# Altium schematic symbol library Xilinx Spartan-3E.SchLib: 220 symbols (part 13 of 30)
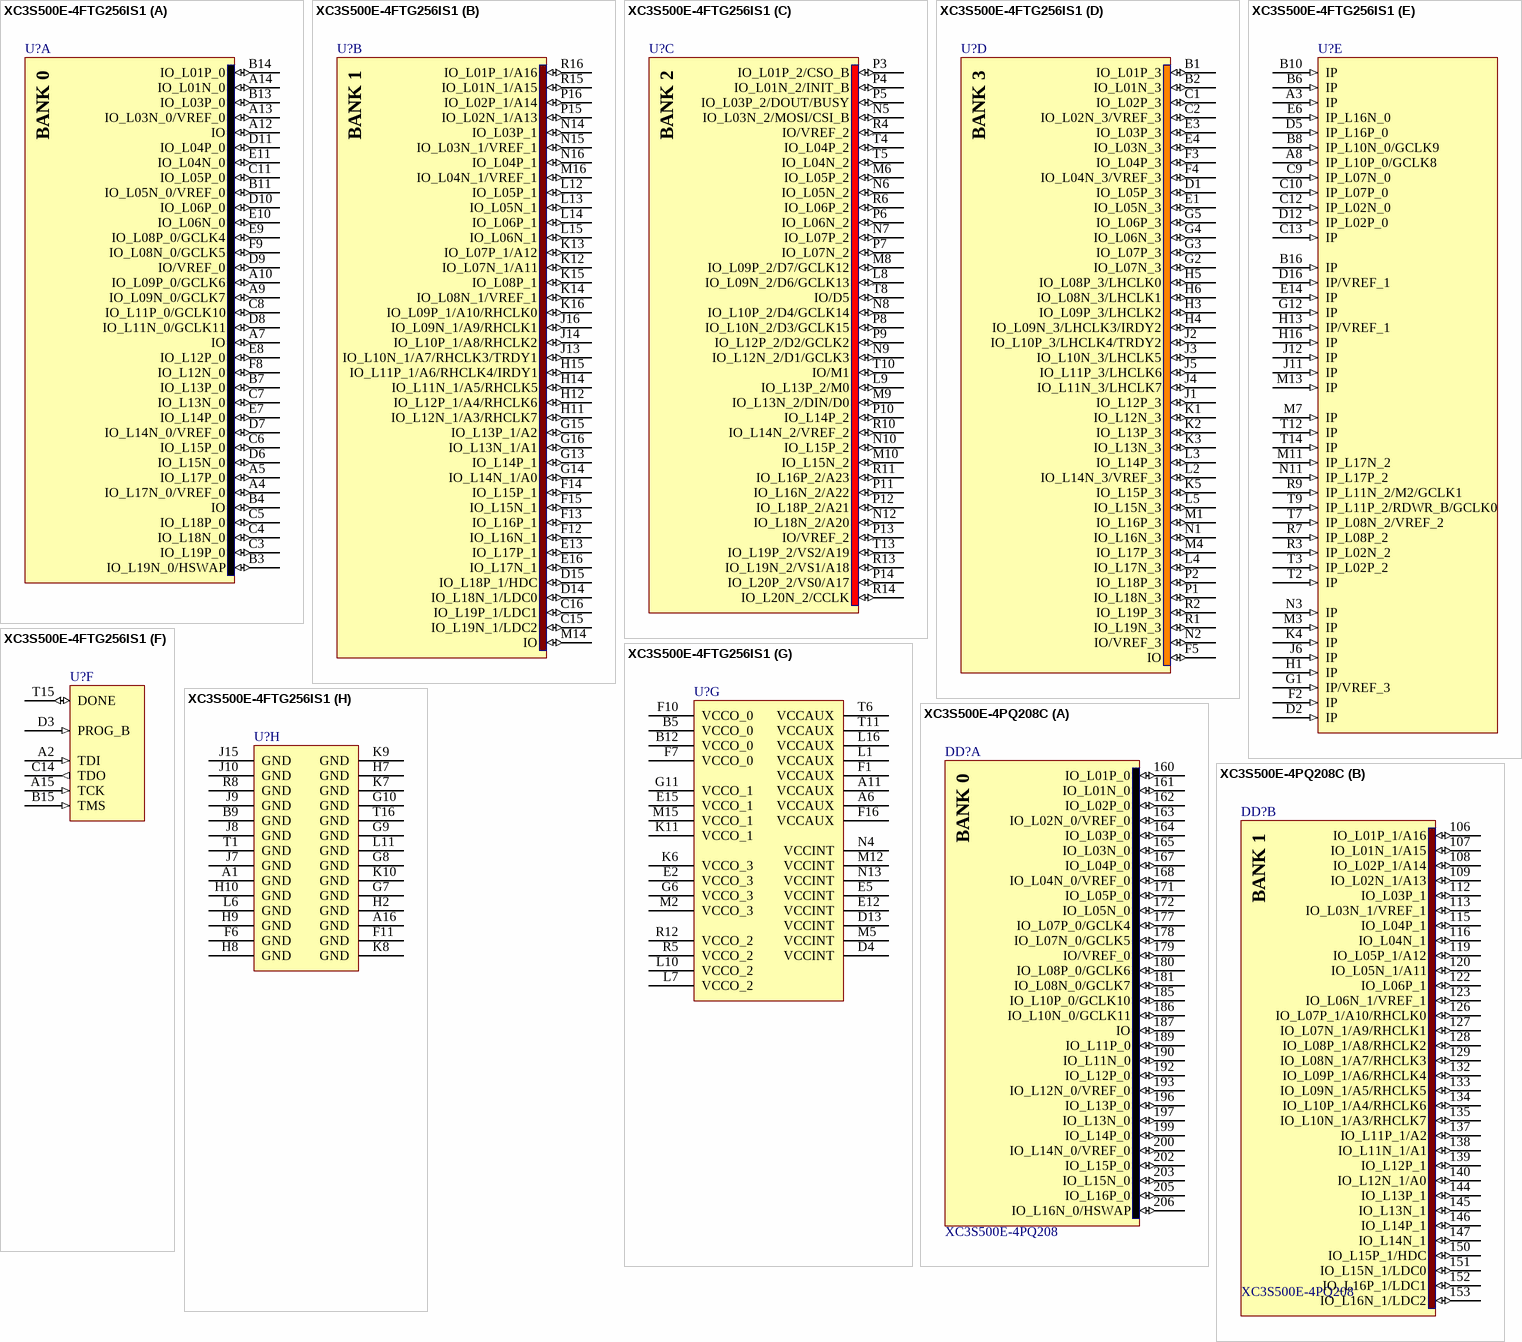
[diagram p207: symbols XC3S500E-4FTG256IS1 to XC3S500E-4PQ208C]

## XC3S500E-4FTG256IS1
designator U?
Spartan-3E 1.2V FPGA, 190 User I/Os, 256-Ball FTBGA, Standard Performance, Industrial Grade, Stepping 1, Pb-Free; Published: 14-May-2007; LatestRevisionDate: 30-Oct-2009; LatestRevisionNote: Updated to datasheet version 3.8 Aug-2009.; DatasheetVersion: ver3.8, Aug-2009; PackageVersion: ver1.3, Oct-2007; PackageReference: FTG256; Publisher: Altium Limited; PackageDescription: 256-Ball Fine Pitch Thin Ball Grid Array 1.00 mm Pitch (FTG256) - Pb-Free; Code_JEDEC: MS-034-AAF-1*; ComponentLink1Description: Spartan-3E Datasheet; ComponentLink1URL: http://www.xilinx.com/support/documentation/data_sheets/ds312.pdf; ComponentLink2Description: FTG256 Package Drawing; ComponentLink2URL: http://www.xilinx.com/support/documentation/package_specs/ft256.pdf; ComponentLink3Description: Spartan-3E Documents; ComponentLink3URL: http://www.xilinx.com/support/documentation/spartan-3e.htm; ComponentLink4Description: Xilinx.com Home; ComponentLink4URL: http://www.xilinx.com
footprint FTG256 (BGA, 256-Leads, Body 17x17mm, Pitch 1mm)
signal-integrity model XC3S500E_FTG256 (Spartan-3E)
part A pins: A4 IO_L17N_0/VREF_0 (io), A5 IO_L17P_0 (io), A7 IO (io), A9 IO_L09N_0/GCLK7 (io), A10 IO_L09P_0/GCLK6 (io), A12 IO (io), A13 IO_L03N_0/VREF_0 (io), A14 IO_L01N_0 (io), B3 IO_L19N_0/HSWAP (io), B4 IO (io), B7 IO_L13P_0 (io), B11 IO_L05N_0/VREF_0 (io), B13 IO_L03P_0 (io), B14 IO_L01P_0 (io), C3 IO_L19P_0 (io), C4 IO_L18N_0 (io), C5 IO_L18P_0 (io), C6 IO_L15P_0 (io), C7 IO_L13N_0 (io), C8 IO_L11P_0/GCLK10 (io), C11 IO_L05P_0 (io), D6 IO_L15N_0 (io), D7 IO_L14N_0/VREF_0 (io), D8 IO_L11N_0/GCLK11 (io), D9 IO/VREF_0 (io), D10 IO_L06P_0 (io), D11 IO_L04P_0 (io), E7 IO_L14P_0 (io), E8 IO_L12P_0 (io), E9 IO_L08P_0/GCLK4 (io), E10 IO_L06N_0 (io), E11 IO_L04N_0 (io), F8 IO_L12N_0 (io), F9 IO_L08N_0/GCLK5 (io)
part B pins: C15 IO_L19N_1/LDC2 (io), C16 IO_L19P_1/LDC1 (io), D14 IO_L18N_1/LDC0 (io), D15 IO_L18P_1/HDC (io), E13 IO_L17P_1 (io), E16 IO_L17N_1 (io), F12 IO_L16N_1 (io), F13 IO_L16P_1 (io), F14 IO_L15P_1 (io), F15 IO_L15N_1 (io), G13 IO_L14P_1 (io), G14 IO_L14N_1/A0 (io), G15 IO_L13P_1/A2 (io), G16 IO_L13N_1/A1 (io), H11 IO_L12N_1/A3/RHCLK7 (io), H12 IO_L12P_1/A4/RHCLK6 (io), H14 IO_L11N_1/A5/RHCLK5 (io), H15 IO_L11P_1/A6/RHCLK4/IRDY1 (io), J13 IO_L10N_1/A7/RHCLK3/TRDY1 (io), J14 IO_L10P_1/A8/RHCLK2 (io), J16 IO_L09N_1/A9/RHCLK1 (io), K12 IO_L07N_1/A11 (io), K13 IO_L07P_1/A12 (io), K14 IO_L08N_1/VREF_1 (io), K15 IO_L08P_1 (io), K16 IO_L09P_1/A10/RHCLK0 (io), L12 IO_L05P_1 (io), L13 IO_L05N_1 (io), L14 IO_L06P_1 (io), L15 IO_L06N_1 (io), M14 IO (io), M16 IO_L04N_1/VREF_1 (io), N14 IO_L03P_1 (io), N15 IO_L03N_1/VREF_1 (io), N16 IO_L04P_1 (io), P15 IO_L02N_1/A13 (io), P16 IO_L02P_1/A14 (io), R15 IO_L01N_1/A15 (io), R16 IO_L01P_1/A16 (io)
part C pins: L8 IO_L09N_2/D6/GCLK13 (io), L9 IO_L13P_2/M0 (io), M6 IO_L05P_2 (io), M8 IO_L09P_2/D7/GCLK12 (io), M9 IO_L13N_2/DIN/D0 (io), M10 IO_L15N_2 (io), N5 IO_L03N_2/MOSI/CSI_B (io), N6 IO_L05N_2 (io), N7 IO_L07P_2 (io), N8 IO_L10P_2/D4/GCLK14 (io), N9 IO_L12N_2/D1/GCLK3 (io), N10 IO_L15P_2 (io), N12 IO_L18N_2/A20 (io), P3 IO_L01P_2/CSO_B (io), P4 IO_L01N_2/INIT_B (io), P5 IO_L03P_2/DOUT/BUSY (io), P6 IO_L06N_2 (io), P7 IO_L07N_2 (io), P8 IO_L10N_2/D3/GCLK15 (io), P9 IO_L12P_2/D2/GCLK2 (io), P10 IO_L14P_2 (io), P11 IO_L16N_2/A22 (io), P12 IO_L18P_2/A21 (io), P13 IO/VREF_2 (io), P14 IO_L20P_2/VS0/A17 (io), R4 IO/VREF_2 (io), R6 IO_L06P_2 (io), R10 IO_L14N_2/VREF_2 (io), R11 IO_L16P_2/A23 (io), R13 IO_L19N_2/VS1/A18 (io), R14 IO_L20N_2/CCLK (io), T4 IO_L04P_2 (io), T5 IO_L04N_2 (io), T8 IO/D5 (io), T10 IO/M1 (io), T13 IO_L19P_2/VS2/A19 (io)
part D pins: B1 IO_L01P_3 (io), B2 IO_L01N_3 (io), C1 IO_L02P_3 (io), C2 IO_L02N_3/VREF_3 (io), D1 IO_L05P_3 (io), E1 IO_L05N_3 (io), E3 IO_L03P_3 (io), E4 IO_L03N_3 (io), F3 IO_L04P_3 (io), F4 IO_L04N_3/VREF_3 (io), F5 IO (io), G2 IO_L07N_3 (io), G3 IO_L07P_3 (io), G4 IO_L06N_3 (io), G5 IO_L06P_3 (io), H3 IO_L09P_3/LHCLK2 (io), H4 IO_L09N_3/LHCLK3/IRDY2 (io), H5 IO_L08P_3/LHCLK0 (io), H6 IO_L08N_3/LHCLK1 (io), J1 IO_L12P_3 (io), J2 IO_L10P_3/LHCLK4/TRDY2 (io), J3 IO_L10N_3/LHCLK5 (io), J4 IO_L11N_3/LHCLK7 (io), J5 IO_L11P_3/LHCLK6 (io), K1 IO_L12N_3 (io), K2 IO_L13P_3 (io), K3 IO_L13N_3 (io), K5 IO_L15P_3 (io), L2 IO_L14N_3/VREF_3 (io), L3 IO_L14P_3 (io), L4 IO_L17N_3 (io), L5 IO_L15N_3 (io), M1 IO_L16P_3 (io), M4 IO_L17P_3 (io), N1 IO_L16N_3 (io), N2 IO/VREF_3 (io), P1 IO_L18N_3 (io), P2 IO_L18P_3 (io), R1 IO_L19N_3 (io), R2 IO_L19P_3 (io)
part E pins: A3 IP (in), A8 IP_L10P_0/GCLK8 (in), B6 IP (in), B8 IP_L10N_0/GCLK9 (in), B10 IP (in), B16 IP (in), C9 IP_L07N_0 (in), C10 IP_L07P_0 (in), C12 IP_L02N_0 (in), C13 IP (in), D2 IP (in), D5 IP_L16P_0 (in), D12 IP_L02P_0 (in), D16 IP/VREF_1 (in), E6 IP_L16N_0 (in), E14 IP (in), F2 IP (in), G1 IP/VREF_3 (in), G12 IP (in), H1 IP (in), H13 IP/VREF_1 (in), H16 IP (in), J6 IP (in), J11 IP (in), J12 IP (in), K4 IP (in), M3 IP (in), M7 IP (in), M11 IP_L17N_2 (in), M13 IP (in), N3 IP (in), N11 IP_L17P_2 (in), R3 IP_L02N_2 (in), R7 IP_L08P_2 (in), R9 IP_L11N_2/M2/GCLK1 (in), T2 IP (in), T3 IP_L02P_2 (in), T7 IP_L08N_2/VREF_2 (in), T9 IP_L11P_2/RDWR_B/GCLK0 (in), T12 IP (in), T14 IP (in)
part F pins: A2 TDI (in), A15 TCK (in), B15 TMS (in), C14 TDO (out), D3 PROG_B (in), T15 DONE (io)
part G pins: A6 VCCAUX (power), A11 VCCAUX (power), B5 VCCO_0 (power), B12 VCCO_0 (power), D4 VCCINT (power), D13 VCCINT (power), E2 VCCO_3 (power), E5 VCCINT (power), E12 VCCINT (power), E15 VCCO_1 (power), F1 VCCAUX (power), F7 VCCO_0 (power), F10 VCCO_0 (power), F16 VCCAUX (power), G6 VCCO_3 (power), G11 VCCO_1 (power), K6 VCCO_3 (power), K11 VCCO_1 (power), L1 VCCAUX (power), L7 VCCO_2 (power), L10 VCCO_2 (power), L16 VCCAUX (power), M2 VCCO_3 (power), M5 VCCINT (power), M12 VCCINT (power), M15 VCCO_1 (power), N4 VCCINT (power), N13 VCCINT (power), R5 VCCO_2 (power), R12 VCCO_2 (power), T6 VCCAUX (power), T11 VCCAUX (power)
part H pins: A1 GND (power), A16 GND (power), B9 GND (power), F6 GND (power), F11 GND (power), G7 GND (power), G8 GND (power), G9 GND (power), G10 GND (power), H2 GND (power), H7 GND (power), H8 GND (power), H9 GND (power), H10 GND (power), J7 GND (power), J8 GND (power), J9 GND (power), J10 GND (power), J15 GND (power), K7 GND (power), K8 GND (power), K9 GND (power), K10 GND (power), L6 GND (power), L11 GND (power), R8 GND (power), T1 GND (power), T16 GND (power)
part A text: BANK 0
part B text: BANK 1
part C text: BANK 2
part D text: BANK 3

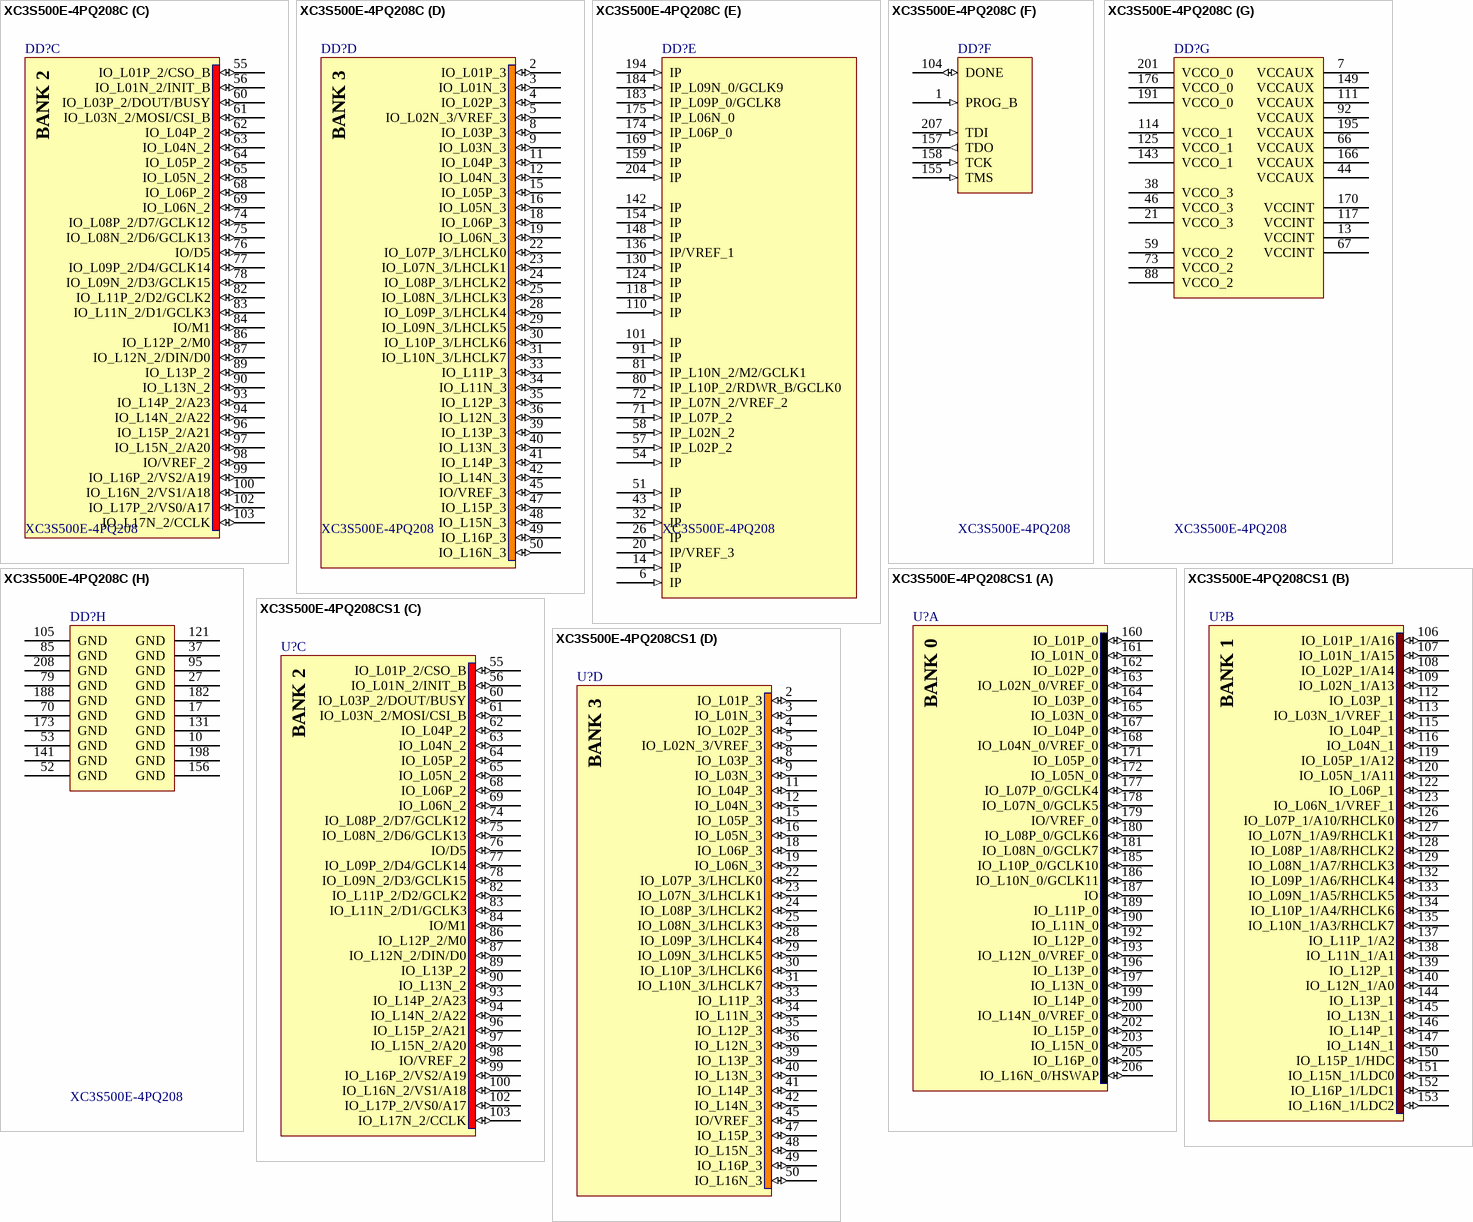
[diagram p72: symbols XC3S500E-4PQ208C to XC3S500E-4PQ208CS1]

## XC3S500E-4PQ208C
designator DD?, comment XC3S500E-4PQ208
Spartan-3E 1.2V FPGA, 158 User I/Os, 208-Pin PQFP, Standard Performance, Commercial Grade; Published: 6-Jun-2005; LatestRevisionDate: 30-Oct-2009; LatestRevisionNote: Updated to datasheet version 3.8 Aug-2009.; DatasheetVersion: ver3.8, Aug-2009; PackageVersion: ver1.2, Jun-2004; PackageReference: PQ208; Publisher: Altium Limited; PackageDescription: 208-Pin Plastic Quad Flat Pack (PQ208); Code_JEDEC: MS-029-FA-1; ComponentLink1Description: Spartan-3E Datasheet; ComponentLink1URL: http://www.xilinx.com/support/documentation/data_sheets/ds312.pdf; ComponentLink2Description: PQ208 Package Drawing; ComponentLink2URL: http://www.xilinx.com/support/documentation/package_specs/pq208.pdf; ComponentLink3Description: Spartan-3E Documents; ComponentLink3URL: http://www.xilinx.com/support/documentation/spartan-3e.htm; ComponentLink4Description: Xilinx.com Home; ComponentLink4URL: http://www.xilinx.com
footprint PQ208_N (Shrink QFP, 208-Leads, Body 28x28mm, Pitch 0.5mm, IPC Medium Density)
footprint PQ208_L (Shrink QFP, 208-Leads, Body 28x28mm, Pitch 0.5mm, IPC High Density)
footprint PQ208_M (Shrink QFP, 208-Leads, Body 28x28mm, Pitch 0.5mm, IPC Low Density)
signal-integrity model XC3S500E_PQ208 (Spartan-3E)
part A pins: 160 IO_L01P_0 (io), 161 IO_L01N_0 (io), 162 IO_L02P_0 (io), 163 IO_L02N_0/VREF_0 (io), 164 IO_L03P_0 (io), 165 IO_L03N_0 (io), 167 IO_L04P_0 (io), 168 IO_L04N_0/VREF_0 (io), 171 IO_L05P_0 (io), 172 IO_L05N_0 (io), 177 IO_L07P_0/GCLK4 (io), 178 IO_L07N_0/GCLK5 (io), 179 IO/VREF_0 (io), 180 IO_L08P_0/GCLK6 (io), 181 IO_L08N_0/GCLK7 (io), 185 IO_L10P_0/GCLK10 (io), 186 IO_L10N_0/GCLK11 (io), 187 IO (io), 189 IO_L11P_0 (io), 190 IO_L11N_0 (io), 192 IO_L12P_0 (io), 193 IO_L12N_0/VREF_0 (io), 196 IO_L13P_0 (io), 197 IO_L13N_0 (io), 199 IO_L14P_0 (io), 200 IO_L14N_0/VREF_0 (io), 202 IO_L15P_0 (io), 203 IO_L15N_0 (io), 205 IO_L16P_0 (io), 206 IO_L16N_0/HSWAP (io)
part B pins: 106 IO_L01P_1/A16 (io), 107 IO_L01N_1/A15 (io), 108 IO_L02P_1/A14 (io), 109 IO_L02N_1/A13 (io), 112 IO_L03P_1 (io), 113 IO_L03N_1/VREF_1 (io), 115 IO_L04P_1 (io), 116 IO_L04N_1 (io), 119 IO_L05P_1/A12 (io), 120 IO_L05N_1/A11 (io), 122 IO_L06P_1 (io), 123 IO_L06N_1/VREF_1 (io), 126 IO_L07P_1/A10/RHCLK0 (io), 127 IO_L07N_1/A9/RHCLK1 (io), 128 IO_L08P_1/A8/RHCLK2 (io), 129 IO_L08N_1/A7/RHCLK3 (io), 132 IO_L09P_1/A6/RHCLK4 (io), 133 IO_L09N_1/A5/RHCLK5 (io), 134 IO_L10P_1/A4/RHCLK6 (io), 135 IO_L10N_1/A3/RHCLK7 (io), 137 IO_L11P_1/A2 (io), 138 IO_L11N_1/A1 (io), 139 IO_L12P_1 (io), 140 IO_L12N_1/A0 (io), 144 IO_L13P_1 (io), 145 IO_L13N_1 (io), 146 IO_L14P_1 (io), 147 IO_L14N_1 (io), 150 IO_L15P_1/HDC (io), 151 IO_L15N_1/LDC0 (io), 152 IO_L16P_1/LDC1 (io), 153 IO_L16N_1/LDC2 (io)
part C pins: 55 IO_L01P_2/CSO_B (io), 56 IO_L01N_2/INIT_B (io), 60 IO_L03P_2/DOUT/BUSY (io), 61 IO_L03N_2/MOSI/CSI_B (io), 62 IO_L04P_2 (io), 63 IO_L04N_2 (io), 64 IO_L05P_2 (io), 65 IO_L05N_2 (io), 68 IO_L06P_2 (io), 69 IO_L06N_2 (io), 74 IO_L08P_2/D7/GCLK12 (io), 75 IO_L08N_2/D6/GCLK13 (io), 76 IO/D5 (io), 77 IO_L09P_2/D4/GCLK14 (io), 78 IO_L09N_2/D3/GCLK15 (io), 82 IO_L11P_2/D2/GCLK2 (io), 83 IO_L11N_2/D1/GCLK3 (io), 84 IO/M1 (io), 86 IO_L12P_2/M0 (io), 87 IO_L12N_2/DIN/D0 (io), 89 IO_L13P_2 (io), 90 IO_L13N_2 (io), 93 IO_L14P_2/A23 (io), 94 IO_L14N_2/A22 (io), 96 IO_L15P_2/A21 (io), 97 IO_L15N_2/A20 (io), 98 IO/VREF_2 (io), 99 IO_L16P_2/VS2/A19 (io), 100 IO_L16N_2/VS1/A18 (io), 102 IO_L17P_2/VS0/A17 (io), 103 IO_L17N_2/CCLK (io)
part D pins: 2 IO_L01P_3 (io), 3 IO_L01N_3 (io), 4 IO_L02P_3 (io), 5 IO_L02N_3/VREF_3 (io), 8 IO_L03P_3 (io), 9 IO_L03N_3 (io), 11 IO_L04P_3 (io), 12 IO_L04N_3 (io), 15 IO_L05P_3 (io), 16 IO_L05N_3 (io), 18 IO_L06P_3 (io), 19 IO_L06N_3 (io), 22 IO_L07P_3/LHCLK0 (io), 23 IO_L07N_3/LHCLK1 (io), 24 IO_L08P_3/LHCLK2 (io), 25 IO_L08N_3/LHCLK3 (io), 28 IO_L09P_3/LHCLK4 (io), 29 IO_L09N_3/LHCLK5 (io), 30 IO_L10P_3/LHCLK6 (io), 31 IO_L10N_3/LHCLK7 (io), 33 IO_L11P_3 (io), 34 IO_L11N_3 (io), 35 IO_L12P_3 (io), 36 IO_L12N_3 (io), 39 IO_L13P_3 (io), 40 IO_L13N_3 (io), 41 IO_L14P_3 (io), 42 IO_L14N_3 (io), 45 IO/VREF_3 (io), 47 IO_L15P_3 (io), 48 IO_L15N_3 (io), 49 IO_L16P_3 (io), 50 IO_L16N_3 (io)
part E pins: 6 IP (in), 14 IP (in), 20 IP/VREF_3 (in), 26 IP (in), 32 IP (in), 43 IP (in), 51 IP (in), 54 IP (in), 57 IP_L02P_2 (in), 58 IP_L02N_2 (in), 71 IP_L07P_2 (in), 72 IP_L07N_2/VREF_2 (in), 80 IP_L10P_2/RDWR_B/GCLK0 (in), 81 IP_L10N_2/M2/GCLK1 (in), 91 IP (in), 101 IP (in), 110 IP (in), 118 IP (in), 124 IP (in), 130 IP (in), 136 IP/VREF_1 (in), 142 IP (in), 148 IP (in), 154 IP (in), 159 IP (in), 169 IP (in), 174 IP_L06P_0 (in), 175 IP_L06N_0 (in), 183 IP_L09P_0/GCLK8 (in), 184 IP_L09N_0/GCLK9 (in), 194 IP (in), 204 IP (in)
part F pins: 1 PROG_B (in), 104 DONE (io), 155 TMS (in), 157 TDO (out), 158 TCK (in), 207 TDI (in)
part G pins: 7 VCCAUX (power), 13 VCCINT (power), 21 VCCO_3 (power), 38 VCCO_3 (power), 44 VCCAUX (power), 46 VCCO_3 (power), 59 VCCO_2 (power), 66 VCCAUX (power), 67 VCCINT (power), 73 VCCO_2 (power), 88 VCCO_2 (power), 92 VCCAUX (power), 111 VCCAUX (power), 114 VCCO_1 (power), 117 VCCINT (power), 125 VCCO_1 (power), 143 VCCO_1 (power), 149 VCCAUX (power), 166 VCCAUX (power), 170 VCCINT (power), 176 VCCO_0 (power), 191 VCCO_0 (power), 195 VCCAUX (power), 201 VCCO_0 (power)
part H pins: 10 GND (power), 17 GND (power), 27 GND (power), 37 GND (power), 52 GND (power), 53 GND (power), 70 GND (power), 79 GND (power), 85 GND (power), 95 GND (power), 105 GND (power), 121 GND (power), 131 GND (power), 141 GND (power), 156 GND (power), 173 GND (power), 182 GND (power), 188 GND (power), 198 GND (power), 208 GND (power)
part A text: BANK 0
part B text: BANK 1
part C text: BANK 2
part D text: BANK 3

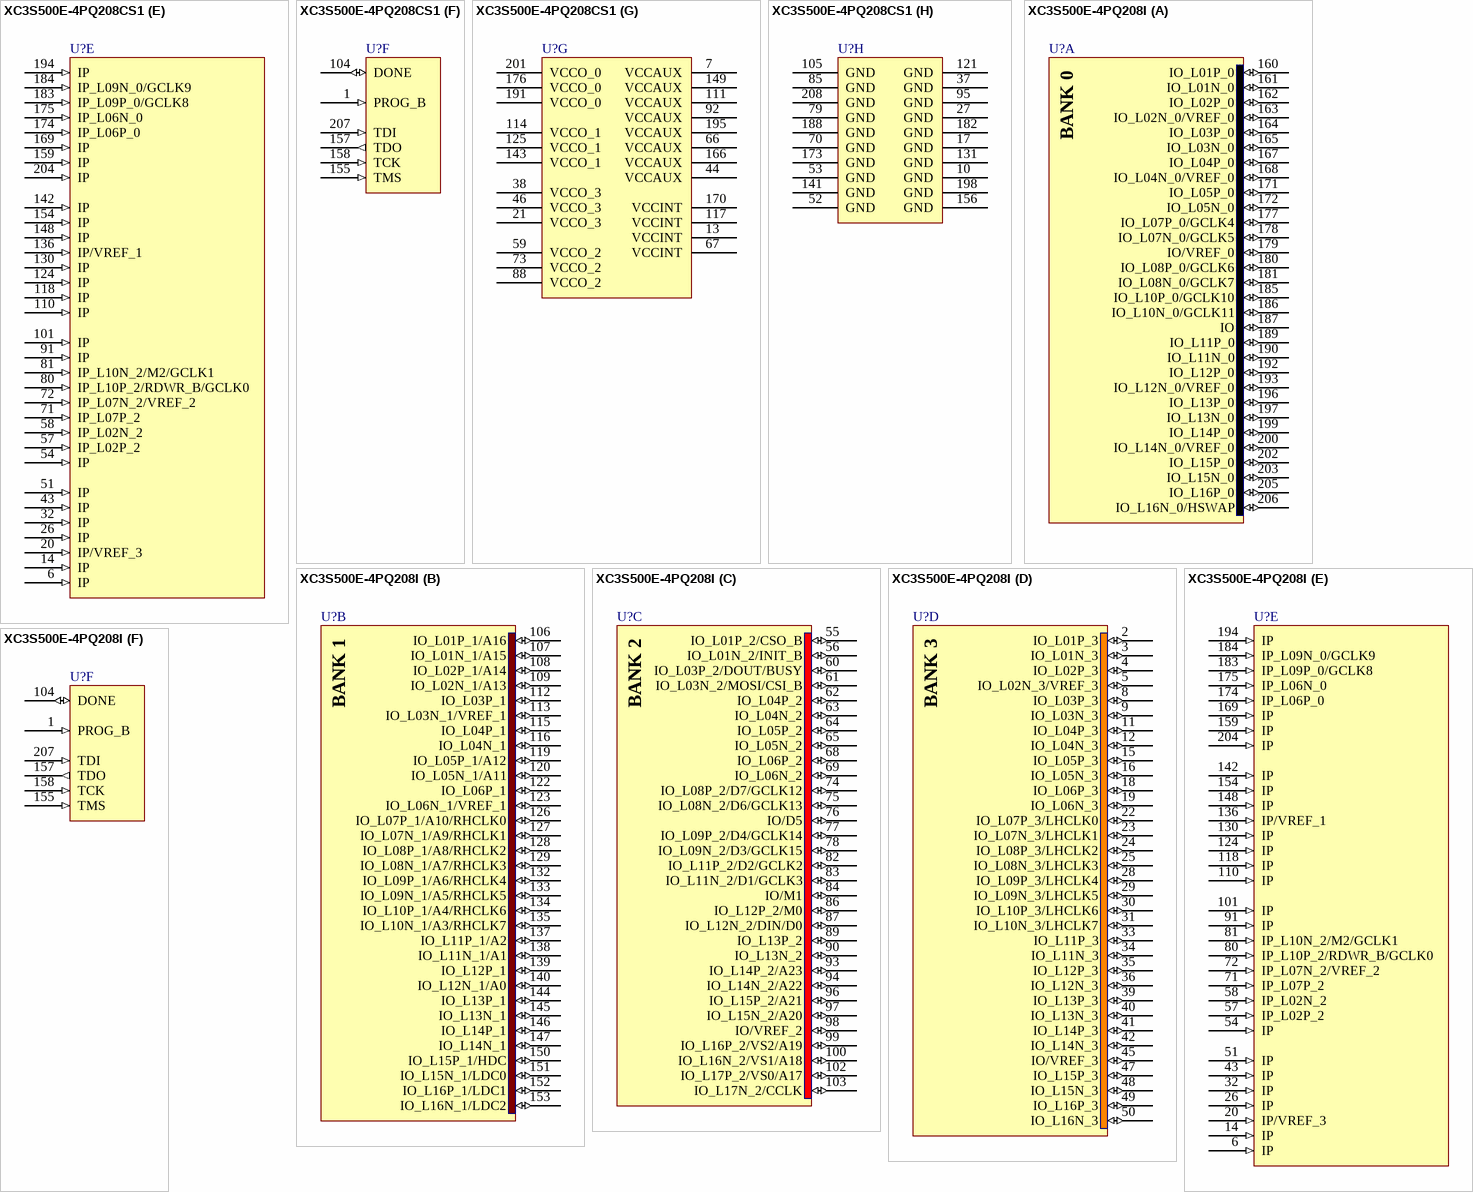
[diagram p73: symbols XC3S500E-4PQ208CS1 to XC3S500E-4PQ208I]

## XC3S500E-4PQ208CS1
designator U?
Spartan-3E 1.2V FPGA, 158 User I/Os, 208-Pin PQFP, Standard Performance, Commercial Grade, Stepping 1; Published: 14-May-2007; LatestRevisionDate: 30-Oct-2009; LatestRevisionNote: Updated to datasheet version 3.8 Aug-2009.; DatasheetVersion: ver3.8, Aug-2009; PackageVersion: ver1.2, Jun-2004; PackageReference: PQ208; Publisher: Altium Limited; PackageDescription: 208-Pin Plastic Quad Flat Pack (PQ208); Code_JEDEC: MS-029-FA-1; ComponentLink1Description: Spartan-3E Datasheet; ComponentLink1URL: http://www.xilinx.com/support/documentation/data_sheets/ds312.pdf; ComponentLink2Description: PQ208 Package Drawing; ComponentLink2URL: http://www.xilinx.com/support/documentation/package_specs/pq208.pdf; ComponentLink3Description: Spartan-3E Documents; ComponentLink3URL: http://www.xilinx.com/support/documentation/spartan-3e.htm; ComponentLink4Description: Xilinx.com Home; ComponentLink4URL: http://www.xilinx.com
footprint PQ208_N (Shrink QFP, 208-Leads, Body 28x28mm, Pitch 0.5mm, IPC Medium Density)
footprint PQ208_L (Shrink QFP, 208-Leads, Body 28x28mm, Pitch 0.5mm, IPC High Density)
footprint PQ208_M (Shrink QFP, 208-Leads, Body 28x28mm, Pitch 0.5mm, IPC Low Density)
signal-integrity model XC3S500E_PQ208 (Spartan-3E)
part A pins: 160 IO_L01P_0 (io), 161 IO_L01N_0 (io), 162 IO_L02P_0 (io), 163 IO_L02N_0/VREF_0 (io), 164 IO_L03P_0 (io), 165 IO_L03N_0 (io), 167 IO_L04P_0 (io), 168 IO_L04N_0/VREF_0 (io), 171 IO_L05P_0 (io), 172 IO_L05N_0 (io), 177 IO_L07P_0/GCLK4 (io), 178 IO_L07N_0/GCLK5 (io), 179 IO/VREF_0 (io), 180 IO_L08P_0/GCLK6 (io), 181 IO_L08N_0/GCLK7 (io), 185 IO_L10P_0/GCLK10 (io), 186 IO_L10N_0/GCLK11 (io), 187 IO (io), 189 IO_L11P_0 (io), 190 IO_L11N_0 (io), 192 IO_L12P_0 (io), 193 IO_L12N_0/VREF_0 (io), 196 IO_L13P_0 (io), 197 IO_L13N_0 (io), 199 IO_L14P_0 (io), 200 IO_L14N_0/VREF_0 (io), 202 IO_L15P_0 (io), 203 IO_L15N_0 (io), 205 IO_L16P_0 (io), 206 IO_L16N_0/HSWAP (io)
part B pins: 106 IO_L01P_1/A16 (io), 107 IO_L01N_1/A15 (io), 108 IO_L02P_1/A14 (io), 109 IO_L02N_1/A13 (io), 112 IO_L03P_1 (io), 113 IO_L03N_1/VREF_1 (io), 115 IO_L04P_1 (io), 116 IO_L04N_1 (io), 119 IO_L05P_1/A12 (io), 120 IO_L05N_1/A11 (io), 122 IO_L06P_1 (io), 123 IO_L06N_1/VREF_1 (io), 126 IO_L07P_1/A10/RHCLK0 (io), 127 IO_L07N_1/A9/RHCLK1 (io), 128 IO_L08P_1/A8/RHCLK2 (io), 129 IO_L08N_1/A7/RHCLK3 (io), 132 IO_L09P_1/A6/RHCLK4 (io), 133 IO_L09N_1/A5/RHCLK5 (io), 134 IO_L10P_1/A4/RHCLK6 (io), 135 IO_L10N_1/A3/RHCLK7 (io), 137 IO_L11P_1/A2 (io), 138 IO_L11N_1/A1 (io), 139 IO_L12P_1 (io), 140 IO_L12N_1/A0 (io), 144 IO_L13P_1 (io), 145 IO_L13N_1 (io), 146 IO_L14P_1 (io), 147 IO_L14N_1 (io), 150 IO_L15P_1/HDC (io), 151 IO_L15N_1/LDC0 (io), 152 IO_L16P_1/LDC1 (io), 153 IO_L16N_1/LDC2 (io)
part C pins: 55 IO_L01P_2/CSO_B (io), 56 IO_L01N_2/INIT_B (io), 60 IO_L03P_2/DOUT/BUSY (io), 61 IO_L03N_2/MOSI/CSI_B (io), 62 IO_L04P_2 (io), 63 IO_L04N_2 (io), 64 IO_L05P_2 (io), 65 IO_L05N_2 (io), 68 IO_L06P_2 (io), 69 IO_L06N_2 (io), 74 IO_L08P_2/D7/GCLK12 (io), 75 IO_L08N_2/D6/GCLK13 (io), 76 IO/D5 (io), 77 IO_L09P_2/D4/GCLK14 (io), 78 IO_L09N_2/D3/GCLK15 (io), 82 IO_L11P_2/D2/GCLK2 (io), 83 IO_L11N_2/D1/GCLK3 (io), 84 IO/M1 (io), 86 IO_L12P_2/M0 (io), 87 IO_L12N_2/DIN/D0 (io), 89 IO_L13P_2 (io), 90 IO_L13N_2 (io), 93 IO_L14P_2/A23 (io), 94 IO_L14N_2/A22 (io), 96 IO_L15P_2/A21 (io), 97 IO_L15N_2/A20 (io), 98 IO/VREF_2 (io), 99 IO_L16P_2/VS2/A19 (io), 100 IO_L16N_2/VS1/A18 (io), 102 IO_L17P_2/VS0/A17 (io), 103 IO_L17N_2/CCLK (io)
part D pins: 2 IO_L01P_3 (io), 3 IO_L01N_3 (io), 4 IO_L02P_3 (io), 5 IO_L02N_3/VREF_3 (io), 8 IO_L03P_3 (io), 9 IO_L03N_3 (io), 11 IO_L04P_3 (io), 12 IO_L04N_3 (io), 15 IO_L05P_3 (io), 16 IO_L05N_3 (io), 18 IO_L06P_3 (io), 19 IO_L06N_3 (io), 22 IO_L07P_3/LHCLK0 (io), 23 IO_L07N_3/LHCLK1 (io), 24 IO_L08P_3/LHCLK2 (io), 25 IO_L08N_3/LHCLK3 (io), 28 IO_L09P_3/LHCLK4 (io), 29 IO_L09N_3/LHCLK5 (io), 30 IO_L10P_3/LHCLK6 (io), 31 IO_L10N_3/LHCLK7 (io), 33 IO_L11P_3 (io), 34 IO_L11N_3 (io), 35 IO_L12P_3 (io), 36 IO_L12N_3 (io), 39 IO_L13P_3 (io), 40 IO_L13N_3 (io), 41 IO_L14P_3 (io), 42 IO_L14N_3 (io), 45 IO/VREF_3 (io), 47 IO_L15P_3 (io), 48 IO_L15N_3 (io), 49 IO_L16P_3 (io), 50 IO_L16N_3 (io)
part E pins: 6 IP (in), 14 IP (in), 20 IP/VREF_3 (in), 26 IP (in), 32 IP (in), 43 IP (in), 51 IP (in), 54 IP (in), 57 IP_L02P_2 (in), 58 IP_L02N_2 (in), 71 IP_L07P_2 (in), 72 IP_L07N_2/VREF_2 (in), 80 IP_L10P_2/RDWR_B/GCLK0 (in), 81 IP_L10N_2/M2/GCLK1 (in), 91 IP (in), 101 IP (in), 110 IP (in), 118 IP (in), 124 IP (in), 130 IP (in), 136 IP/VREF_1 (in), 142 IP (in), 148 IP (in), 154 IP (in), 159 IP (in), 169 IP (in), 174 IP_L06P_0 (in), 175 IP_L06N_0 (in), 183 IP_L09P_0/GCLK8 (in), 184 IP_L09N_0/GCLK9 (in), 194 IP (in), 204 IP (in)
part F pins: 1 PROG_B (in), 104 DONE (io), 155 TMS (in), 157 TDO (out), 158 TCK (in), 207 TDI (in)
part G pins: 7 VCCAUX (power), 13 VCCINT (power), 21 VCCO_3 (power), 38 VCCO_3 (power), 44 VCCAUX (power), 46 VCCO_3 (power), 59 VCCO_2 (power), 66 VCCAUX (power), 67 VCCINT (power), 73 VCCO_2 (power), 88 VCCO_2 (power), 92 VCCAUX (power), 111 VCCAUX (power), 114 VCCO_1 (power), 117 VCCINT (power), 125 VCCO_1 (power), 143 VCCO_1 (power), 149 VCCAUX (power), 166 VCCAUX (power), 170 VCCINT (power), 176 VCCO_0 (power), 191 VCCO_0 (power), 195 VCCAUX (power), 201 VCCO_0 (power)
part H pins: 10 GND (power), 17 GND (power), 27 GND (power), 37 GND (power), 52 GND (power), 53 GND (power), 70 GND (power), 79 GND (power), 85 GND (power), 95 GND (power), 105 GND (power), 121 GND (power), 131 GND (power), 141 GND (power), 156 GND (power), 173 GND (power), 182 GND (power), 188 GND (power), 198 GND (power), 208 GND (power)
part A text: BANK 0
part B text: BANK 1
part C text: BANK 2
part D text: BANK 3

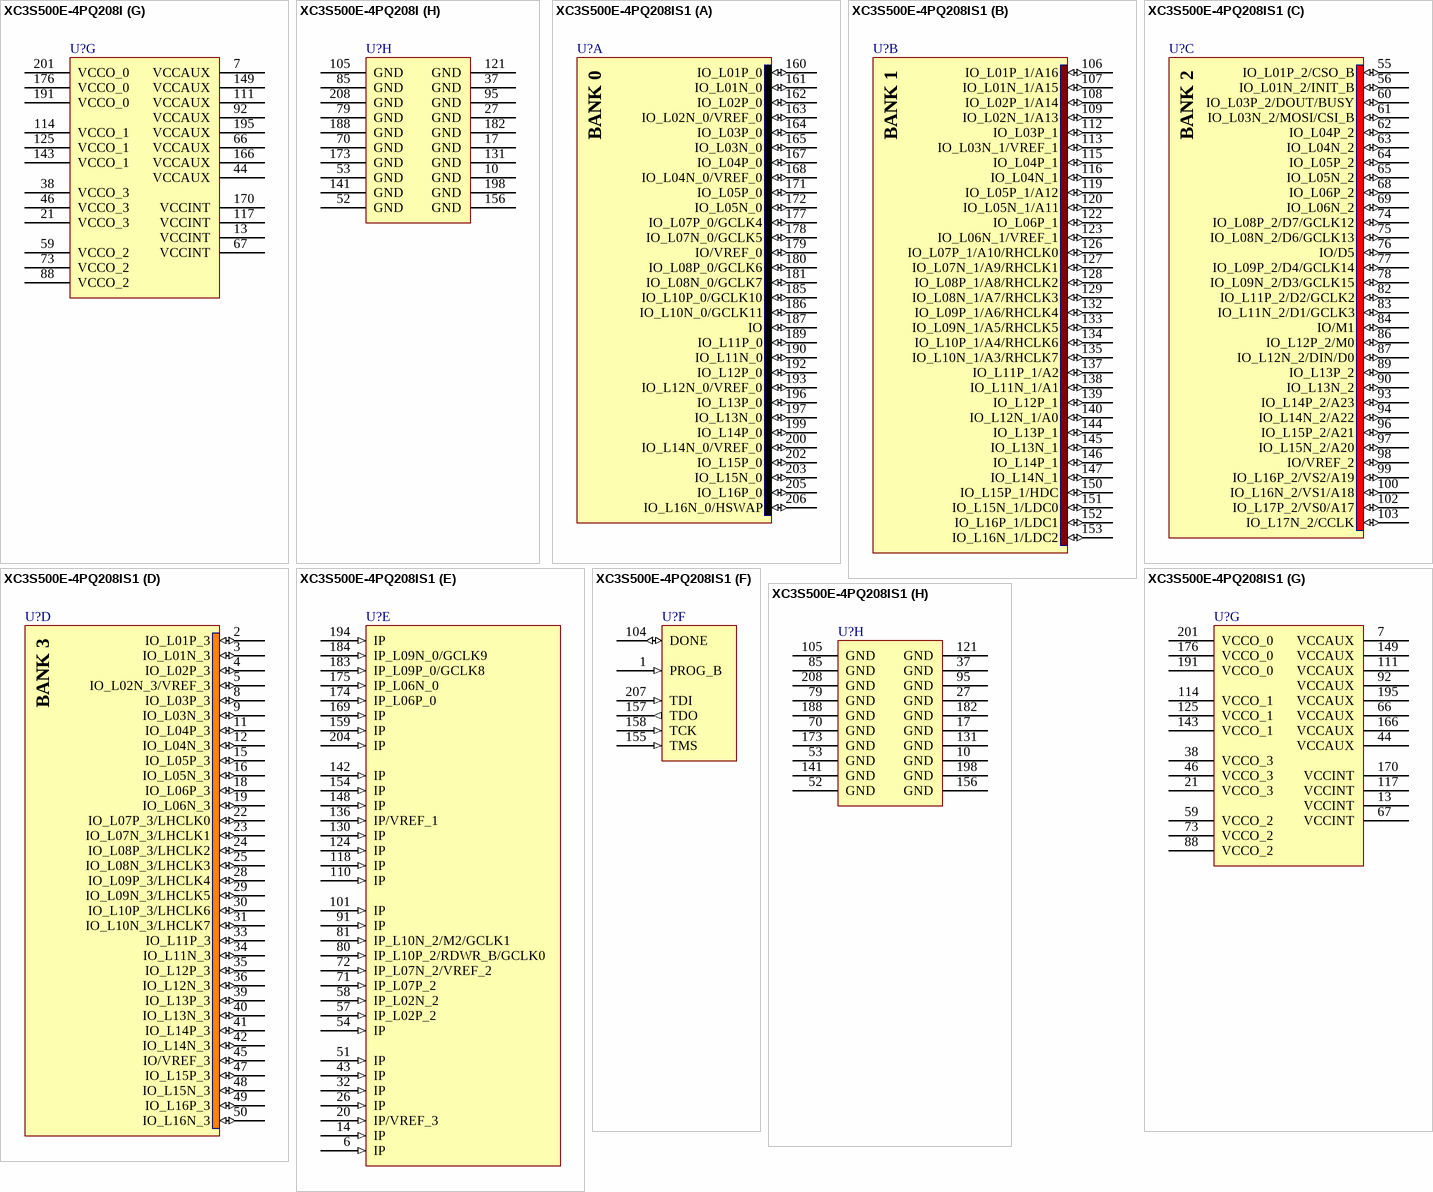
[diagram p74: symbols XC3S500E-4PQ208I to XC3S500E-4PQ208IS1]

## XC3S500E-4PQ208I
designator U?
Spartan-3E 1.2V FPGA, 158 User I/Os, 208-Pin PQFP, Standard Performance, Industrial Grade; Published: 6-Jun-2005; LatestRevisionDate: 30-Oct-2009; LatestRevisionNote: Updated to datasheet version 3.8 Aug-2009.; DatasheetVersion: ver3.8, Aug-2009; PackageVersion: ver1.2, Jun-2004; PackageReference: PQ208; Publisher: Altium Limited; PackageDescription: 208-Pin Plastic Quad Flat Pack (PQ208); Supplier 1: Newark; Supplier Part Number 1: 01P2266; Code_JEDEC: MS-029-FA-1; ComponentLink1Description: Spartan-3E Datasheet; ComponentLink1URL: http://www.xilinx.com/support/documentation/data_sheets/ds312.pdf; ComponentLink2Description: PQ208 Package Drawing; ComponentLink2URL: http://www.xilinx.com/support/documentation/package_specs/pq208.pdf; ComponentLink3Description: Spartan-3E Documents; ComponentLink3URL: http://www.xilinx.com/support/documentation/spartan-3e.htm; ComponentLink4Description: Xilinx.com Home; ComponentLink4URL: http://www.xilinx.com
footprint PQ208_N (Shrink QFP, 208-Leads, Body 28x28mm, Pitch 0.5mm, IPC Medium Density)
footprint PQ208_L (Shrink QFP, 208-Leads, Body 28x28mm, Pitch 0.5mm, IPC High Density)
footprint PQ208_M (Shrink QFP, 208-Leads, Body 28x28mm, Pitch 0.5mm, IPC Low Density)
signal-integrity model XC3S500E_PQ208 (Spartan-3E)
part A pins: 160 IO_L01P_0 (io), 161 IO_L01N_0 (io), 162 IO_L02P_0 (io), 163 IO_L02N_0/VREF_0 (io), 164 IO_L03P_0 (io), 165 IO_L03N_0 (io), 167 IO_L04P_0 (io), 168 IO_L04N_0/VREF_0 (io), 171 IO_L05P_0 (io), 172 IO_L05N_0 (io), 177 IO_L07P_0/GCLK4 (io), 178 IO_L07N_0/GCLK5 (io), 179 IO/VREF_0 (io), 180 IO_L08P_0/GCLK6 (io), 181 IO_L08N_0/GCLK7 (io), 185 IO_L10P_0/GCLK10 (io), 186 IO_L10N_0/GCLK11 (io), 187 IO (io), 189 IO_L11P_0 (io), 190 IO_L11N_0 (io), 192 IO_L12P_0 (io), 193 IO_L12N_0/VREF_0 (io), 196 IO_L13P_0 (io), 197 IO_L13N_0 (io), 199 IO_L14P_0 (io), 200 IO_L14N_0/VREF_0 (io), 202 IO_L15P_0 (io), 203 IO_L15N_0 (io), 205 IO_L16P_0 (io), 206 IO_L16N_0/HSWAP (io)
part B pins: 106 IO_L01P_1/A16 (io), 107 IO_L01N_1/A15 (io), 108 IO_L02P_1/A14 (io), 109 IO_L02N_1/A13 (io), 112 IO_L03P_1 (io), 113 IO_L03N_1/VREF_1 (io), 115 IO_L04P_1 (io), 116 IO_L04N_1 (io), 119 IO_L05P_1/A12 (io), 120 IO_L05N_1/A11 (io), 122 IO_L06P_1 (io), 123 IO_L06N_1/VREF_1 (io), 126 IO_L07P_1/A10/RHCLK0 (io), 127 IO_L07N_1/A9/RHCLK1 (io), 128 IO_L08P_1/A8/RHCLK2 (io), 129 IO_L08N_1/A7/RHCLK3 (io), 132 IO_L09P_1/A6/RHCLK4 (io), 133 IO_L09N_1/A5/RHCLK5 (io), 134 IO_L10P_1/A4/RHCLK6 (io), 135 IO_L10N_1/A3/RHCLK7 (io), 137 IO_L11P_1/A2 (io), 138 IO_L11N_1/A1 (io), 139 IO_L12P_1 (io), 140 IO_L12N_1/A0 (io), 144 IO_L13P_1 (io), 145 IO_L13N_1 (io), 146 IO_L14P_1 (io), 147 IO_L14N_1 (io), 150 IO_L15P_1/HDC (io), 151 IO_L15N_1/LDC0 (io), 152 IO_L16P_1/LDC1 (io), 153 IO_L16N_1/LDC2 (io)
part C pins: 55 IO_L01P_2/CSO_B (io), 56 IO_L01N_2/INIT_B (io), 60 IO_L03P_2/DOUT/BUSY (io), 61 IO_L03N_2/MOSI/CSI_B (io), 62 IO_L04P_2 (io), 63 IO_L04N_2 (io), 64 IO_L05P_2 (io), 65 IO_L05N_2 (io), 68 IO_L06P_2 (io), 69 IO_L06N_2 (io), 74 IO_L08P_2/D7/GCLK12 (io), 75 IO_L08N_2/D6/GCLK13 (io), 76 IO/D5 (io), 77 IO_L09P_2/D4/GCLK14 (io), 78 IO_L09N_2/D3/GCLK15 (io), 82 IO_L11P_2/D2/GCLK2 (io), 83 IO_L11N_2/D1/GCLK3 (io), 84 IO/M1 (io), 86 IO_L12P_2/M0 (io), 87 IO_L12N_2/DIN/D0 (io), 89 IO_L13P_2 (io), 90 IO_L13N_2 (io), 93 IO_L14P_2/A23 (io), 94 IO_L14N_2/A22 (io), 96 IO_L15P_2/A21 (io), 97 IO_L15N_2/A20 (io), 98 IO/VREF_2 (io), 99 IO_L16P_2/VS2/A19 (io), 100 IO_L16N_2/VS1/A18 (io), 102 IO_L17P_2/VS0/A17 (io), 103 IO_L17N_2/CCLK (io)
part D pins: 2 IO_L01P_3 (io), 3 IO_L01N_3 (io), 4 IO_L02P_3 (io), 5 IO_L02N_3/VREF_3 (io), 8 IO_L03P_3 (io), 9 IO_L03N_3 (io), 11 IO_L04P_3 (io), 12 IO_L04N_3 (io), 15 IO_L05P_3 (io), 16 IO_L05N_3 (io), 18 IO_L06P_3 (io), 19 IO_L06N_3 (io), 22 IO_L07P_3/LHCLK0 (io), 23 IO_L07N_3/LHCLK1 (io), 24 IO_L08P_3/LHCLK2 (io), 25 IO_L08N_3/LHCLK3 (io), 28 IO_L09P_3/LHCLK4 (io), 29 IO_L09N_3/LHCLK5 (io), 30 IO_L10P_3/LHCLK6 (io), 31 IO_L10N_3/LHCLK7 (io), 33 IO_L11P_3 (io), 34 IO_L11N_3 (io), 35 IO_L12P_3 (io), 36 IO_L12N_3 (io), 39 IO_L13P_3 (io), 40 IO_L13N_3 (io), 41 IO_L14P_3 (io), 42 IO_L14N_3 (io), 45 IO/VREF_3 (io), 47 IO_L15P_3 (io), 48 IO_L15N_3 (io), 49 IO_L16P_3 (io), 50 IO_L16N_3 (io)
part E pins: 6 IP (in), 14 IP (in), 20 IP/VREF_3 (in), 26 IP (in), 32 IP (in), 43 IP (in), 51 IP (in), 54 IP (in), 57 IP_L02P_2 (in), 58 IP_L02N_2 (in), 71 IP_L07P_2 (in), 72 IP_L07N_2/VREF_2 (in), 80 IP_L10P_2/RDWR_B/GCLK0 (in), 81 IP_L10N_2/M2/GCLK1 (in), 91 IP (in), 101 IP (in), 110 IP (in), 118 IP (in), 124 IP (in), 130 IP (in), 136 IP/VREF_1 (in), 142 IP (in), 148 IP (in), 154 IP (in), 159 IP (in), 169 IP (in), 174 IP_L06P_0 (in), 175 IP_L06N_0 (in), 183 IP_L09P_0/GCLK8 (in), 184 IP_L09N_0/GCLK9 (in), 194 IP (in), 204 IP (in)
part F pins: 1 PROG_B (in), 104 DONE (io), 155 TMS (in), 157 TDO (out), 158 TCK (in), 207 TDI (in)
part G pins: 7 VCCAUX (power), 13 VCCINT (power), 21 VCCO_3 (power), 38 VCCO_3 (power), 44 VCCAUX (power), 46 VCCO_3 (power), 59 VCCO_2 (power), 66 VCCAUX (power), 67 VCCINT (power), 73 VCCO_2 (power), 88 VCCO_2 (power), 92 VCCAUX (power), 111 VCCAUX (power), 114 VCCO_1 (power), 117 VCCINT (power), 125 VCCO_1 (power), 143 VCCO_1 (power), 149 VCCAUX (power), 166 VCCAUX (power), 170 VCCINT (power), 176 VCCO_0 (power), 191 VCCO_0 (power), 195 VCCAUX (power), 201 VCCO_0 (power)
part H pins: 10 GND (power), 17 GND (power), 27 GND (power), 37 GND (power), 52 GND (power), 53 GND (power), 70 GND (power), 79 GND (power), 85 GND (power), 95 GND (power), 105 GND (power), 121 GND (power), 131 GND (power), 141 GND (power), 156 GND (power), 173 GND (power), 182 GND (power), 188 GND (power), 198 GND (power), 208 GND (power)
part A text: BANK 0
part B text: BANK 1
part C text: BANK 2
part D text: BANK 3

## XC3S500E-4PQ208IS1
designator U?
Spartan-3E 1.2V FPGA, 158 User I/Os, 208-Pin PQFP, Standard Performance, Industrial Grade, Stepping 1; Published: 14-May-2007; LatestRevisionDate: 30-Oct-2009; LatestRevisionNote: Updated to datasheet version 3.8 Aug-2009.; DatasheetVersion: ver3.8, Aug-2009; PackageVersion: ver1.2, Jun-2004; PackageReference: PQ208; Publisher: Altium Limited; PackageDescription: 208-Pin Plastic Quad Flat Pack (PQ208); Code_JEDEC: MS-029-FA-1; ComponentLink1Description: Spartan-3E Datasheet; ComponentLink1URL: http://www.xilinx.com/support/documentation/data_sheets/ds312.pdf; ComponentLink2Description: PQ208 Package Drawing; ComponentLink2URL: http://www.xilinx.com/support/documentation/package_specs/pq208.pdf; ComponentLink3Description: Spartan-3E Documents; ComponentLink3URL: http://www.xilinx.com/support/documentation/spartan-3e.htm; ComponentLink4Description: Xilinx.com Home; ComponentLink4URL: http://www.xilinx.com
footprint PQ208_N (Shrink QFP, 208-Leads, Body 28x28mm, Pitch 0.5mm, IPC Medium Density)
footprint PQ208_L (Shrink QFP, 208-Leads, Body 28x28mm, Pitch 0.5mm, IPC High Density)
footprint PQ208_M (Shrink QFP, 208-Leads, Body 28x28mm, Pitch 0.5mm, IPC Low Density)
signal-integrity model XC3S500E_PQ208 (Spartan-3E)
part A pins: 160 IO_L01P_0 (io), 161 IO_L01N_0 (io), 162 IO_L02P_0 (io), 163 IO_L02N_0/VREF_0 (io), 164 IO_L03P_0 (io), 165 IO_L03N_0 (io), 167 IO_L04P_0 (io), 168 IO_L04N_0/VREF_0 (io), 171 IO_L05P_0 (io), 172 IO_L05N_0 (io), 177 IO_L07P_0/GCLK4 (io), 178 IO_L07N_0/GCLK5 (io), 179 IO/VREF_0 (io), 180 IO_L08P_0/GCLK6 (io), 181 IO_L08N_0/GCLK7 (io), 185 IO_L10P_0/GCLK10 (io), 186 IO_L10N_0/GCLK11 (io), 187 IO (io), 189 IO_L11P_0 (io), 190 IO_L11N_0 (io), 192 IO_L12P_0 (io), 193 IO_L12N_0/VREF_0 (io), 196 IO_L13P_0 (io), 197 IO_L13N_0 (io), 199 IO_L14P_0 (io), 200 IO_L14N_0/VREF_0 (io), 202 IO_L15P_0 (io), 203 IO_L15N_0 (io), 205 IO_L16P_0 (io), 206 IO_L16N_0/HSWAP (io)
part B pins: 106 IO_L01P_1/A16 (io), 107 IO_L01N_1/A15 (io), 108 IO_L02P_1/A14 (io), 109 IO_L02N_1/A13 (io), 112 IO_L03P_1 (io), 113 IO_L03N_1/VREF_1 (io), 115 IO_L04P_1 (io), 116 IO_L04N_1 (io), 119 IO_L05P_1/A12 (io), 120 IO_L05N_1/A11 (io), 122 IO_L06P_1 (io), 123 IO_L06N_1/VREF_1 (io), 126 IO_L07P_1/A10/RHCLK0 (io), 127 IO_L07N_1/A9/RHCLK1 (io), 128 IO_L08P_1/A8/RHCLK2 (io), 129 IO_L08N_1/A7/RHCLK3 (io), 132 IO_L09P_1/A6/RHCLK4 (io), 133 IO_L09N_1/A5/RHCLK5 (io), 134 IO_L10P_1/A4/RHCLK6 (io), 135 IO_L10N_1/A3/RHCLK7 (io), 137 IO_L11P_1/A2 (io), 138 IO_L11N_1/A1 (io), 139 IO_L12P_1 (io), 140 IO_L12N_1/A0 (io), 144 IO_L13P_1 (io), 145 IO_L13N_1 (io), 146 IO_L14P_1 (io), 147 IO_L14N_1 (io), 150 IO_L15P_1/HDC (io), 151 IO_L15N_1/LDC0 (io), 152 IO_L16P_1/LDC1 (io), 153 IO_L16N_1/LDC2 (io)
part C pins: 55 IO_L01P_2/CSO_B (io), 56 IO_L01N_2/INIT_B (io), 60 IO_L03P_2/DOUT/BUSY (io), 61 IO_L03N_2/MOSI/CSI_B (io), 62 IO_L04P_2 (io), 63 IO_L04N_2 (io), 64 IO_L05P_2 (io), 65 IO_L05N_2 (io), 68 IO_L06P_2 (io), 69 IO_L06N_2 (io), 74 IO_L08P_2/D7/GCLK12 (io), 75 IO_L08N_2/D6/GCLK13 (io), 76 IO/D5 (io), 77 IO_L09P_2/D4/GCLK14 (io), 78 IO_L09N_2/D3/GCLK15 (io), 82 IO_L11P_2/D2/GCLK2 (io), 83 IO_L11N_2/D1/GCLK3 (io), 84 IO/M1 (io), 86 IO_L12P_2/M0 (io), 87 IO_L12N_2/DIN/D0 (io), 89 IO_L13P_2 (io), 90 IO_L13N_2 (io), 93 IO_L14P_2/A23 (io), 94 IO_L14N_2/A22 (io), 96 IO_L15P_2/A21 (io), 97 IO_L15N_2/A20 (io), 98 IO/VREF_2 (io), 99 IO_L16P_2/VS2/A19 (io), 100 IO_L16N_2/VS1/A18 (io), 102 IO_L17P_2/VS0/A17 (io), 103 IO_L17N_2/CCLK (io)
part D pins: 2 IO_L01P_3 (io), 3 IO_L01N_3 (io), 4 IO_L02P_3 (io), 5 IO_L02N_3/VREF_3 (io), 8 IO_L03P_3 (io), 9 IO_L03N_3 (io), 11 IO_L04P_3 (io), 12 IO_L04N_3 (io), 15 IO_L05P_3 (io), 16 IO_L05N_3 (io), 18 IO_L06P_3 (io), 19 IO_L06N_3 (io), 22 IO_L07P_3/LHCLK0 (io), 23 IO_L07N_3/LHCLK1 (io), 24 IO_L08P_3/LHCLK2 (io), 25 IO_L08N_3/LHCLK3 (io), 28 IO_L09P_3/LHCLK4 (io), 29 IO_L09N_3/LHCLK5 (io), 30 IO_L10P_3/LHCLK6 (io), 31 IO_L10N_3/LHCLK7 (io), 33 IO_L11P_3 (io), 34 IO_L11N_3 (io), 35 IO_L12P_3 (io), 36 IO_L12N_3 (io), 39 IO_L13P_3 (io), 40 IO_L13N_3 (io), 41 IO_L14P_3 (io), 42 IO_L14N_3 (io), 45 IO/VREF_3 (io), 47 IO_L15P_3 (io), 48 IO_L15N_3 (io), 49 IO_L16P_3 (io), 50 IO_L16N_3 (io)
part E pins: 6 IP (in), 14 IP (in), 20 IP/VREF_3 (in), 26 IP (in), 32 IP (in), 43 IP (in), 51 IP (in), 54 IP (in), 57 IP_L02P_2 (in), 58 IP_L02N_2 (in), 71 IP_L07P_2 (in), 72 IP_L07N_2/VREF_2 (in), 80 IP_L10P_2/RDWR_B/GCLK0 (in), 81 IP_L10N_2/M2/GCLK1 (in), 91 IP (in), 101 IP (in), 110 IP (in), 118 IP (in), 124 IP (in), 130 IP (in), 136 IP/VREF_1 (in), 142 IP (in), 148 IP (in), 154 IP (in), 159 IP (in), 169 IP (in), 174 IP_L06P_0 (in), 175 IP_L06N_0 (in), 183 IP_L09P_0/GCLK8 (in), 184 IP_L09N_0/GCLK9 (in), 194 IP (in), 204 IP (in)
part F pins: 1 PROG_B (in), 104 DONE (io), 155 TMS (in), 157 TDO (out), 158 TCK (in), 207 TDI (in)
part G pins: 7 VCCAUX (power), 13 VCCINT (power), 21 VCCO_3 (power), 38 VCCO_3 (power), 44 VCCAUX (power), 46 VCCO_3 (power), 59 VCCO_2 (power), 66 VCCAUX (power), 67 VCCINT (power), 73 VCCO_2 (power), 88 VCCO_2 (power), 92 VCCAUX (power), 111 VCCAUX (power), 114 VCCO_1 (power), 117 VCCINT (power), 125 VCCO_1 (power), 143 VCCO_1 (power), 149 VCCAUX (power), 166 VCCAUX (power), 170 VCCINT (power), 176 VCCO_0 (power), 191 VCCO_0 (power), 195 VCCAUX (power), 201 VCCO_0 (power)
part H pins: 10 GND (power), 17 GND (power), 27 GND (power), 37 GND (power), 52 GND (power), 53 GND (power), 70 GND (power), 79 GND (power), 85 GND (power), 95 GND (power), 105 GND (power), 121 GND (power), 131 GND (power), 141 GND (power), 156 GND (power), 173 GND (power), 182 GND (power), 188 GND (power), 198 GND (power), 208 GND (power)
part A text: BANK 0
part B text: BANK 1
part C text: BANK 2
part D text: BANK 3

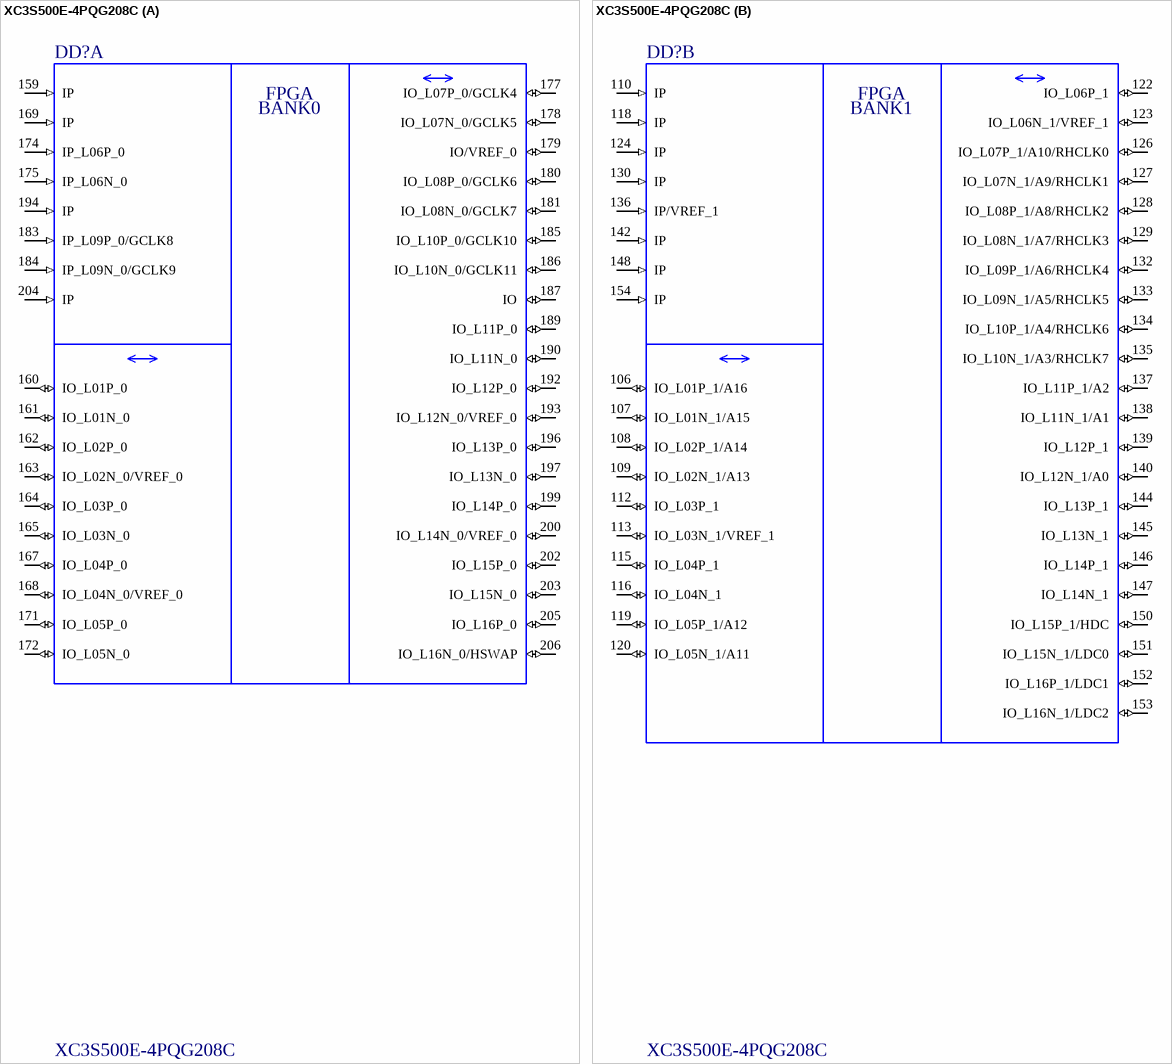
[diagram p75: symbol XC3S500E-4PQG208C]

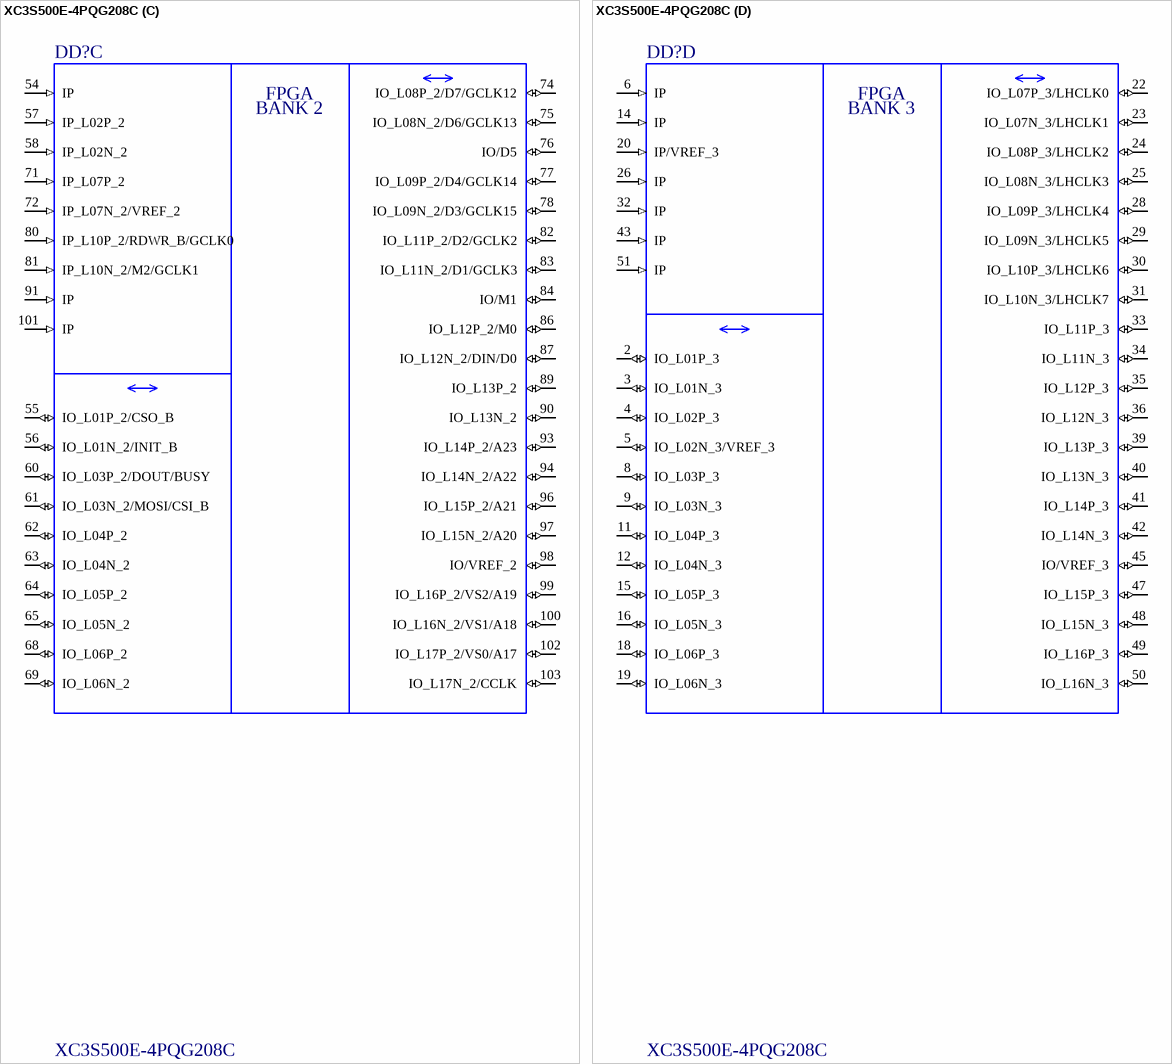
[diagram p76: symbol XC3S500E-4PQG208C]

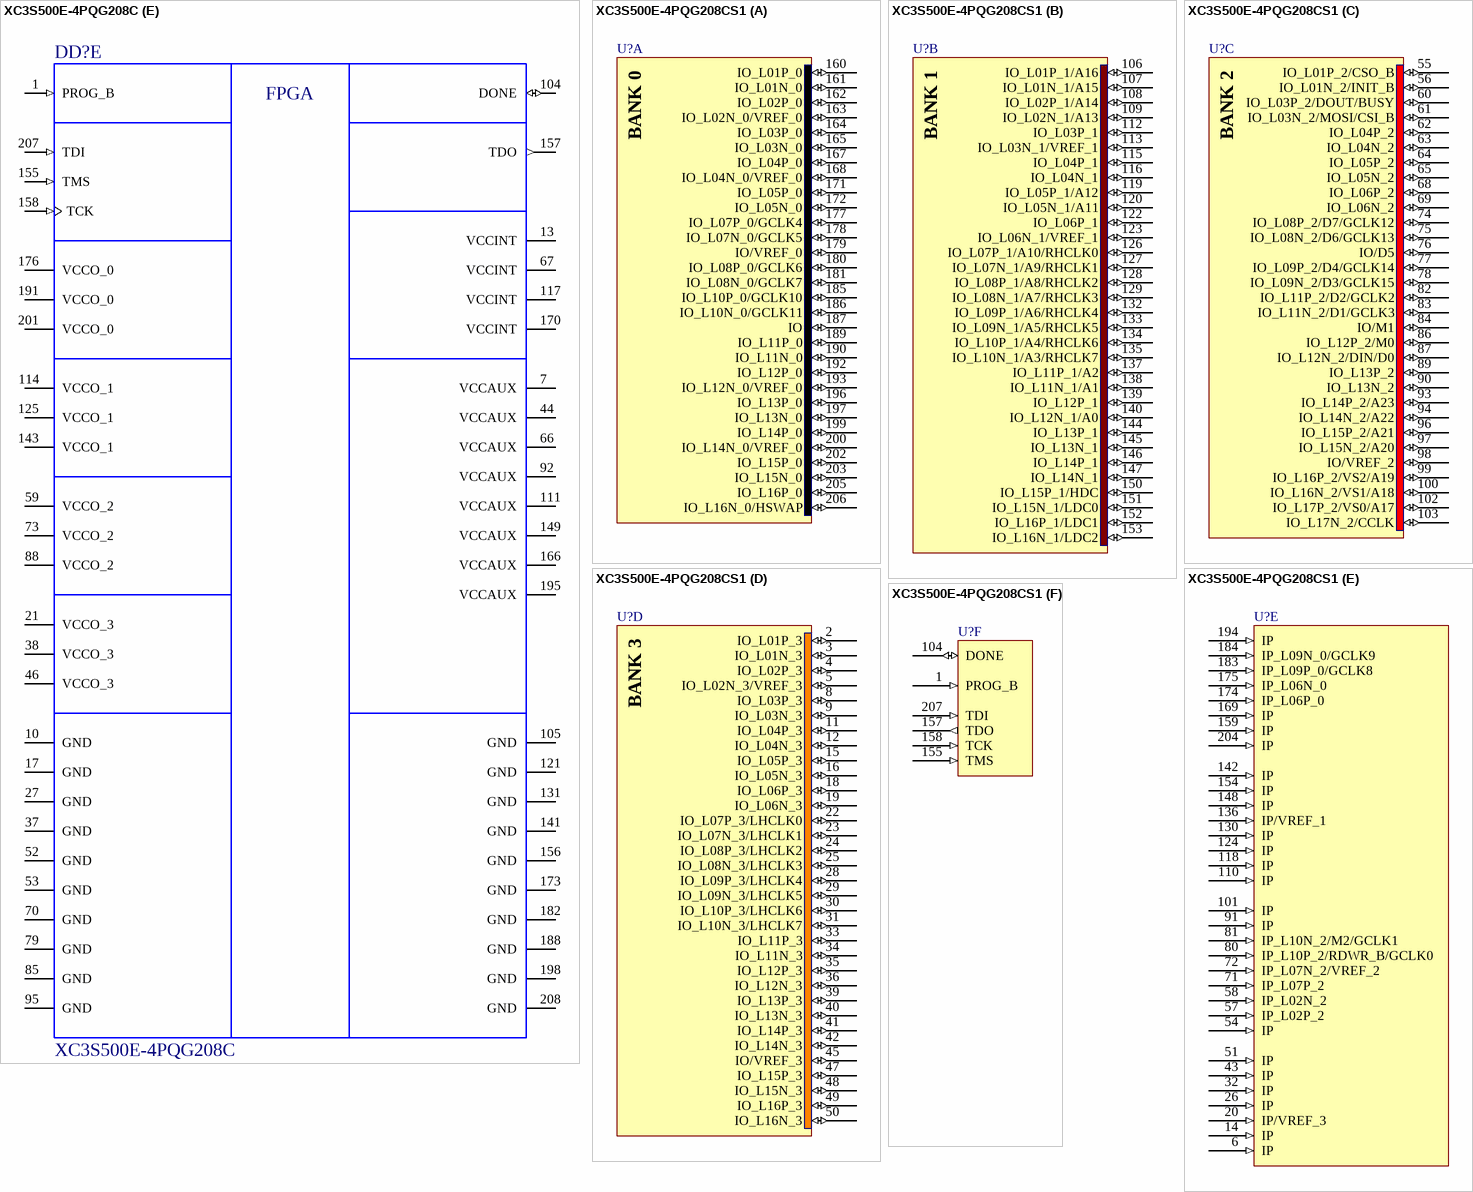
[diagram p77: symbols XC3S500E-4PQG208C to XC3S500E-4PQG208CS1]

## XC3S500E-4PQG208C
designator DD?
Spartan-3E 1.2V FPGA, 158 User I/Os, 208-Pin PQFP, Standard Performance, Commercial Grade, Pb-Free; Published: 6-Jun-2005; LatestRevisionDate: 30-Oct-2009; LatestRevisionNote: Updated to datasheet version 3.8 Aug-2009.; DatasheetVersion: ver3.8, Aug-2009; PackageVersion: ver1.2, Jun-2004; PackageReference: PQG208; Publisher: Altium Limited; PackageDescription: 208-Pin Plastic Quad Flat Pack (PQG208) - Pb-Free; Supplier 1: Digi-Key; Supplier Part Number 1: 122-1520-ND; Code_JEDEC: MS-029-FA-1; ComponentLink1Description: Spartan-3E Datasheet; ComponentLink1URL: http://www.xilinx.com/support/documentation/data_sheets/ds312.pdf; ComponentLink2Description: PQG208 Package Drawing; ComponentLink2URL: http://www.xilinx.com/support/documentation/package_specs/pq208.pdf; ComponentLink3Description: Spartan-3E Documents; ComponentLink3URL: http://www.xilinx.com/support/documentation/spartan-3e.htm; ComponentLink4Description: Xilinx.com Home; ComponentLink4URL: http://www.xilinx.com
footprint PQG208_N (Shrink QFP, 208-Leads, Body 28x28mm, Pitch 0.5mm, IPC Medium Density)
footprint PQG208_L (Shrink QFP, 208-Leads, Body 28x28mm, Pitch 0.5mm, IPC High Density)
footprint PQG208_M (Shrink QFP, 208-Leads, Body 28x28mm, Pitch 0.5mm, IPC Low Density)
signal-integrity model XC3S500E_PQG208 (Spartan-3E)
part A pins: 159 IP (in), 160 IO_L01P_0 (io), 161 IO_L01N_0 (io), 162 IO_L02P_0 (io), 163 IO_L02N_0/VREF_0 (io), 164 IO_L03P_0 (io), 165 IO_L03N_0 (io), 167 IO_L04P_0 (io), 168 IO_L04N_0/VREF_0 (io), 169 IP (in), 171 IO_L05P_0 (io), 172 IO_L05N_0 (io), 174 IP_L06P_0 (in), 175 IP_L06N_0 (in), 177 IO_L07P_0/GCLK4 (io), 178 IO_L07N_0/GCLK5 (io), 179 IO/VREF_0 (io), 180 IO_L08P_0/GCLK6 (io), 181 IO_L08N_0/GCLK7 (io), 183 IP_L09P_0/GCLK8 (in), 184 IP_L09N_0/GCLK9 (in), 185 IO_L10P_0/GCLK10 (io), 186 IO_L10N_0/GCLK11 (io), 187 IO (io), 189 IO_L11P_0 (io), 190 IO_L11N_0 (io), 192 IO_L12P_0 (io), 193 IO_L12N_0/VREF_0 (io), 194 IP (in), 196 IO_L13P_0 (io), 197 IO_L13N_0 (io), 199 IO_L14P_0 (io), 200 IO_L14N_0/VREF_0 (io), 202 IO_L15P_0 (io), 203 IO_L15N_0 (io), 204 IP (in), 205 IO_L16P_0 (io), 206 IO_L16N_0/HSWAP (io)
part B pins: 106 IO_L01P_1/A16 (io), 107 IO_L01N_1/A15 (io), 108 IO_L02P_1/A14 (io), 109 IO_L02N_1/A13 (io), 110 IP (in), 112 IO_L03P_1 (io), 113 IO_L03N_1/VREF_1 (io), 115 IO_L04P_1 (io), 116 IO_L04N_1 (io), 118 IP (in), 119 IO_L05P_1/A12 (io), 120 IO_L05N_1/A11 (io), 122 IO_L06P_1 (io), 123 IO_L06N_1/VREF_1 (io), 124 IP (in), 126 IO_L07P_1/A10/RHCLK0 (io), 127 IO_L07N_1/A9/RHCLK1 (io), 128 IO_L08P_1/A8/RHCLK2 (io), 129 IO_L08N_1/A7/RHCLK3 (io), 130 IP (in), 132 IO_L09P_1/A6/RHCLK4 (io), 133 IO_L09N_1/A5/RHCLK5 (io), 134 IO_L10P_1/A4/RHCLK6 (io), 135 IO_L10N_1/A3/RHCLK7 (io), 136 IP/VREF_1 (in), 137 IO_L11P_1/A2 (io), 138 IO_L11N_1/A1 (io), 139 IO_L12P_1 (io), 140 IO_L12N_1/A0 (io), 142 IP (in), 144 IO_L13P_1 (io), 145 IO_L13N_1 (io), 146 IO_L14P_1 (io), 147 IO_L14N_1 (io), 148 IP (in), 150 IO_L15P_1/HDC (io), 151 IO_L15N_1/LDC0 (io), 152 IO_L16P_1/LDC1 (io), 153 IO_L16N_1/LDC2 (io), 154 IP (in)
part C pins: 54 IP (in), 55 IO_L01P_2/CSO_B (io), 56 IO_L01N_2/INIT_B (io), 57 IP_L02P_2 (in), 58 IP_L02N_2 (in), 60 IO_L03P_2/DOUT/BUSY (io), 61 IO_L03N_2/MOSI/CSI_B (io), 62 IO_L04P_2 (io), 63 IO_L04N_2 (io), 64 IO_L05P_2 (io), 65 IO_L05N_2 (io), 68 IO_L06P_2 (io), 69 IO_L06N_2 (io), 71 IP_L07P_2 (in), 72 IP_L07N_2/VREF_2 (in), 74 IO_L08P_2/D7/GCLK12 (io), 75 IO_L08N_2/D6/GCLK13 (io), 76 IO/D5 (io), 77 IO_L09P_2/D4/GCLK14 (io), 78 IO_L09N_2/D3/GCLK15 (io), 80 IP_L10P_2/RDWR_B/GCLK0 (in), 81 IP_L10N_2/M2/GCLK1 (in), 82 IO_L11P_2/D2/GCLK2 (io), 83 IO_L11N_2/D1/GCLK3 (io), 84 IO/M1 (io), 86 IO_L12P_2/M0 (io), 87 IO_L12N_2/DIN/D0 (io), 89 IO_L13P_2 (io), 90 IO_L13N_2 (io), 91 IP (in), 93 IO_L14P_2/A23 (io), 94 IO_L14N_2/A22 (io), 96 IO_L15P_2/A21 (io), 97 IO_L15N_2/A20 (io), 98 IO/VREF_2 (io), 99 IO_L16P_2/VS2/A19 (io), 100 IO_L16N_2/VS1/A18 (io), 101 IP (in), 102 IO_L17P_2/VS0/A17 (io), 103 IO_L17N_2/CCLK (io)
part D pins: 2 IO_L01P_3 (io), 3 IO_L01N_3 (io), 4 IO_L02P_3 (io), 5 IO_L02N_3/VREF_3 (io), 6 IP (in), 8 IO_L03P_3 (io), 9 IO_L03N_3 (io), 11 IO_L04P_3 (io), 12 IO_L04N_3 (io), 14 IP (in), 15 IO_L05P_3 (io), 16 IO_L05N_3 (io), 18 IO_L06P_3 (io), 19 IO_L06N_3 (io), 20 IP/VREF_3 (in), 22 IO_L07P_3/LHCLK0 (io), 23 IO_L07N_3/LHCLK1 (io), 24 IO_L08P_3/LHCLK2 (io), 25 IO_L08N_3/LHCLK3 (io), 26 IP (in), 28 IO_L09P_3/LHCLK4 (io), 29 IO_L09N_3/LHCLK5 (io), 30 IO_L10P_3/LHCLK6 (io), 31 IO_L10N_3/LHCLK7 (io), 32 IP (in), 33 IO_L11P_3 (io), 34 IO_L11N_3 (io), 35 IO_L12P_3 (io), 36 IO_L12N_3 (io), 39 IO_L13P_3 (io), 40 IO_L13N_3 (io), 41 IO_L14P_3 (io), 42 IO_L14N_3 (io), 43 IP (in), 45 IO/VREF_3 (io), 47 IO_L15P_3 (io), 48 IO_L15N_3 (io), 49 IO_L16P_3 (io), 50 IO_L16N_3 (io), 51 IP (in)
part E pins: 1 PROG_B (in), 7 VCCAUX (power), 10 GND (power), 13 VCCINT (power), 17 GND (power), 21 VCCO_3 (power), 27 GND (power), 37 GND (power), 38 VCCO_3 (power), 44 VCCAUX (power), 46 VCCO_3 (power), 52 GND (power), 53 GND (power), 59 VCCO_2 (power), 66 VCCAUX (power), 67 VCCINT (power), 70 GND (power), 73 VCCO_2 (power), 79 GND (power), 85 GND (power), 88 VCCO_2 (power), 92 VCCAUX (power), 95 GND (power), 104 DONE (io), 105 GND (power), 111 VCCAUX (power), 114 VCCO_1 (power), 117 VCCINT (power), 121 GND (power), 125 VCCO_1 (power), 131 GND (power), 141 GND (power), 143 VCCO_1 (power), 149 VCCAUX (power), 155 TMS (in), 156 GND (power), 157 TDO (out), 158 TCK (in), 166 VCCAUX (power), 170 VCCINT (power), 173 GND (power), 176 VCCO_0 (power), 182 GND (power), 188 GND (power), 191 VCCO_0 (power), 195 VCCAUX (power), 198 GND (power), 201 VCCO_0 (power), 207 TDI (in), 208 GND (power)
part A text: FPGA; BANK0
part B text: FPGA; BANK1
part C text: FPGA; BANK 2
part D text: FPGA; BANK 3
part E text: FPGA

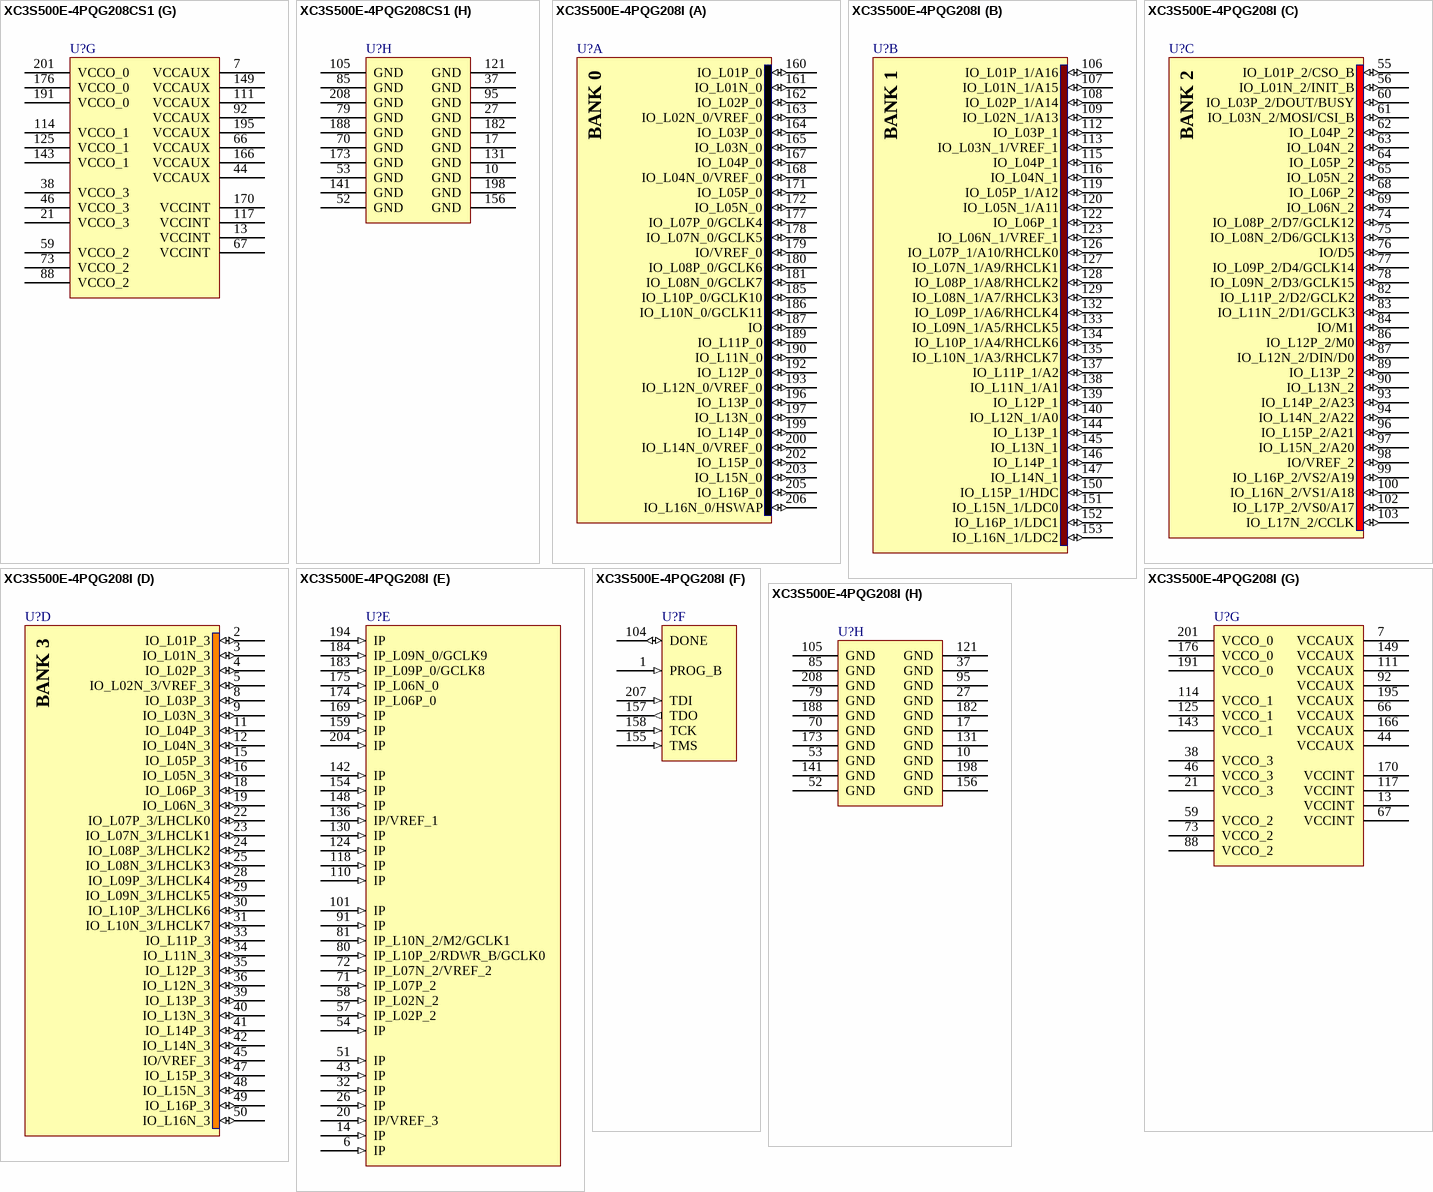
[diagram p78: symbols XC3S500E-4PQG208CS1 to XC3S500E-4PQG208I]

## XC3S500E-4PQG208CS1
designator U?
Spartan-3E 1.2V FPGA, 158 User I/Os, 208-Pin PQFP, Standard Performance, Commercial Grade, Stepping 1, Pb-Free; Published: 14-May-2007; LatestRevisionDate: 30-Oct-2009; LatestRevisionNote: Updated to datasheet version 3.8 Aug-2009.; DatasheetVersion: ver3.8, Aug-2009; PackageVersion: ver1.2, Jun-2004; PackageReference: PQG208; Publisher: Altium Limited; PackageDescription: 208-Pin Plastic Quad Flat Pack (PQG208) - Pb-Free; Code_JEDEC: MS-029-FA-1; ComponentLink1Description: Spartan-3E Datasheet; ComponentLink1URL: http://www.xilinx.com/support/documentation/data_sheets/ds312.pdf; ComponentLink2Description: PQG208 Package Drawing; ComponentLink2URL: http://www.xilinx.com/support/documentation/package_specs/pq208.pdf; ComponentLink3Description: Spartan-3E Documents; ComponentLink3URL: http://www.xilinx.com/support/documentation/spartan-3e.htm; ComponentLink4Description: Xilinx.com Home; ComponentLink4URL: http://www.xilinx.com
footprint PQG208_N (Shrink QFP, 208-Leads, Body 28x28mm, Pitch 0.5mm, IPC Medium Density)
footprint PQG208_L (Shrink QFP, 208-Leads, Body 28x28mm, Pitch 0.5mm, IPC High Density)
footprint PQG208_M (Shrink QFP, 208-Leads, Body 28x28mm, Pitch 0.5mm, IPC Low Density)
signal-integrity model XC3S500E_PQG208 (Spartan-3E)
part A pins: 160 IO_L01P_0 (io), 161 IO_L01N_0 (io), 162 IO_L02P_0 (io), 163 IO_L02N_0/VREF_0 (io), 164 IO_L03P_0 (io), 165 IO_L03N_0 (io), 167 IO_L04P_0 (io), 168 IO_L04N_0/VREF_0 (io), 171 IO_L05P_0 (io), 172 IO_L05N_0 (io), 177 IO_L07P_0/GCLK4 (io), 178 IO_L07N_0/GCLK5 (io), 179 IO/VREF_0 (io), 180 IO_L08P_0/GCLK6 (io), 181 IO_L08N_0/GCLK7 (io), 185 IO_L10P_0/GCLK10 (io), 186 IO_L10N_0/GCLK11 (io), 187 IO (io), 189 IO_L11P_0 (io), 190 IO_L11N_0 (io), 192 IO_L12P_0 (io), 193 IO_L12N_0/VREF_0 (io), 196 IO_L13P_0 (io), 197 IO_L13N_0 (io), 199 IO_L14P_0 (io), 200 IO_L14N_0/VREF_0 (io), 202 IO_L15P_0 (io), 203 IO_L15N_0 (io), 205 IO_L16P_0 (io), 206 IO_L16N_0/HSWAP (io)
part B pins: 106 IO_L01P_1/A16 (io), 107 IO_L01N_1/A15 (io), 108 IO_L02P_1/A14 (io), 109 IO_L02N_1/A13 (io), 112 IO_L03P_1 (io), 113 IO_L03N_1/VREF_1 (io), 115 IO_L04P_1 (io), 116 IO_L04N_1 (io), 119 IO_L05P_1/A12 (io), 120 IO_L05N_1/A11 (io), 122 IO_L06P_1 (io), 123 IO_L06N_1/VREF_1 (io), 126 IO_L07P_1/A10/RHCLK0 (io), 127 IO_L07N_1/A9/RHCLK1 (io), 128 IO_L08P_1/A8/RHCLK2 (io), 129 IO_L08N_1/A7/RHCLK3 (io), 132 IO_L09P_1/A6/RHCLK4 (io), 133 IO_L09N_1/A5/RHCLK5 (io), 134 IO_L10P_1/A4/RHCLK6 (io), 135 IO_L10N_1/A3/RHCLK7 (io), 137 IO_L11P_1/A2 (io), 138 IO_L11N_1/A1 (io), 139 IO_L12P_1 (io), 140 IO_L12N_1/A0 (io), 144 IO_L13P_1 (io), 145 IO_L13N_1 (io), 146 IO_L14P_1 (io), 147 IO_L14N_1 (io), 150 IO_L15P_1/HDC (io), 151 IO_L15N_1/LDC0 (io), 152 IO_L16P_1/LDC1 (io), 153 IO_L16N_1/LDC2 (io)
part C pins: 55 IO_L01P_2/CSO_B (io), 56 IO_L01N_2/INIT_B (io), 60 IO_L03P_2/DOUT/BUSY (io), 61 IO_L03N_2/MOSI/CSI_B (io), 62 IO_L04P_2 (io), 63 IO_L04N_2 (io), 64 IO_L05P_2 (io), 65 IO_L05N_2 (io), 68 IO_L06P_2 (io), 69 IO_L06N_2 (io), 74 IO_L08P_2/D7/GCLK12 (io), 75 IO_L08N_2/D6/GCLK13 (io), 76 IO/D5 (io), 77 IO_L09P_2/D4/GCLK14 (io), 78 IO_L09N_2/D3/GCLK15 (io), 82 IO_L11P_2/D2/GCLK2 (io), 83 IO_L11N_2/D1/GCLK3 (io), 84 IO/M1 (io), 86 IO_L12P_2/M0 (io), 87 IO_L12N_2/DIN/D0 (io), 89 IO_L13P_2 (io), 90 IO_L13N_2 (io), 93 IO_L14P_2/A23 (io), 94 IO_L14N_2/A22 (io), 96 IO_L15P_2/A21 (io), 97 IO_L15N_2/A20 (io), 98 IO/VREF_2 (io), 99 IO_L16P_2/VS2/A19 (io), 100 IO_L16N_2/VS1/A18 (io), 102 IO_L17P_2/VS0/A17 (io), 103 IO_L17N_2/CCLK (io)
part D pins: 2 IO_L01P_3 (io), 3 IO_L01N_3 (io), 4 IO_L02P_3 (io), 5 IO_L02N_3/VREF_3 (io), 8 IO_L03P_3 (io), 9 IO_L03N_3 (io), 11 IO_L04P_3 (io), 12 IO_L04N_3 (io), 15 IO_L05P_3 (io), 16 IO_L05N_3 (io), 18 IO_L06P_3 (io), 19 IO_L06N_3 (io), 22 IO_L07P_3/LHCLK0 (io), 23 IO_L07N_3/LHCLK1 (io), 24 IO_L08P_3/LHCLK2 (io), 25 IO_L08N_3/LHCLK3 (io), 28 IO_L09P_3/LHCLK4 (io), 29 IO_L09N_3/LHCLK5 (io), 30 IO_L10P_3/LHCLK6 (io), 31 IO_L10N_3/LHCLK7 (io), 33 IO_L11P_3 (io), 34 IO_L11N_3 (io), 35 IO_L12P_3 (io), 36 IO_L12N_3 (io), 39 IO_L13P_3 (io), 40 IO_L13N_3 (io), 41 IO_L14P_3 (io), 42 IO_L14N_3 (io), 45 IO/VREF_3 (io), 47 IO_L15P_3 (io), 48 IO_L15N_3 (io), 49 IO_L16P_3 (io), 50 IO_L16N_3 (io)
part E pins: 6 IP (in), 14 IP (in), 20 IP/VREF_3 (in), 26 IP (in), 32 IP (in), 43 IP (in), 51 IP (in), 54 IP (in), 57 IP_L02P_2 (in), 58 IP_L02N_2 (in), 71 IP_L07P_2 (in), 72 IP_L07N_2/VREF_2 (in), 80 IP_L10P_2/RDWR_B/GCLK0 (in), 81 IP_L10N_2/M2/GCLK1 (in), 91 IP (in), 101 IP (in), 110 IP (in), 118 IP (in), 124 IP (in), 130 IP (in), 136 IP/VREF_1 (in), 142 IP (in), 148 IP (in), 154 IP (in), 159 IP (in), 169 IP (in), 174 IP_L06P_0 (in), 175 IP_L06N_0 (in), 183 IP_L09P_0/GCLK8 (in), 184 IP_L09N_0/GCLK9 (in), 194 IP (in), 204 IP (in)
part F pins: 1 PROG_B (in), 104 DONE (io), 155 TMS (in), 157 TDO (out), 158 TCK (in), 207 TDI (in)
part G pins: 7 VCCAUX (power), 13 VCCINT (power), 21 VCCO_3 (power), 38 VCCO_3 (power), 44 VCCAUX (power), 46 VCCO_3 (power), 59 VCCO_2 (power), 66 VCCAUX (power), 67 VCCINT (power), 73 VCCO_2 (power), 88 VCCO_2 (power), 92 VCCAUX (power), 111 VCCAUX (power), 114 VCCO_1 (power), 117 VCCINT (power), 125 VCCO_1 (power), 143 VCCO_1 (power), 149 VCCAUX (power), 166 VCCAUX (power), 170 VCCINT (power), 176 VCCO_0 (power), 191 VCCO_0 (power), 195 VCCAUX (power), 201 VCCO_0 (power)
part H pins: 10 GND (power), 17 GND (power), 27 GND (power), 37 GND (power), 52 GND (power), 53 GND (power), 70 GND (power), 79 GND (power), 85 GND (power), 95 GND (power), 105 GND (power), 121 GND (power), 131 GND (power), 141 GND (power), 156 GND (power), 173 GND (power), 182 GND (power), 188 GND (power), 198 GND (power), 208 GND (power)
part A text: BANK 0
part B text: BANK 1
part C text: BANK 2
part D text: BANK 3

## XC3S500E-4PQG208I
designator U?
Spartan-3E 1.2V FPGA, 158 User I/Os, 208-Pin PQFP, Standard Performance, Industrial Grade, Pb-Free; Published: 6-Jun-2005; LatestRevisionDate: 30-Oct-2009; LatestRevisionNote: Updated to datasheet version 3.8 Aug-2009.; DatasheetVersion: ver3.8, Aug-2009; PackageVersion: ver1.2, Jun-2004; PackageReference: PQG208; Publisher: Altium Limited; PackageDescription: 208-Pin Plastic Quad Flat Pack (PQG208) - Pb-Free; Supplier 1: Digi-Key; Supplier Part Number 1: XC3S500E-4PQG208I-ND; Supplier 2: Farnell; Supplier Part Number 2: 1762479; Supplier 3: Newark; Supplier Part Number 3: 52R3828; Code_JEDEC: MS-029-FA-1; ComponentLink1Description: Spartan-3E Datasheet; ComponentLink1URL: http://www.xilinx.com/support/documentation/data_sheets/ds312.pdf; ComponentLink2Description: PQG208 Package Drawing; ComponentLink2URL: http://www.xilinx.com/support/documentation/package_specs/pq208.pdf; ComponentLink3Description: Spartan-3E Documents; ComponentLink3URL: http://www.xilinx.com/support/documentation/spartan-3e.htm; ComponentLink4Description: Xilinx.com Home; ComponentLink4URL: http://www.xilinx.com
footprint PQG208_N (Shrink QFP, 208-Leads, Body 28x28mm, Pitch 0.5mm, IPC Medium Density)
footprint PQG208_L (Shrink QFP, 208-Leads, Body 28x28mm, Pitch 0.5mm, IPC High Density)
footprint PQG208_M (Shrink QFP, 208-Leads, Body 28x28mm, Pitch 0.5mm, IPC Low Density)
signal-integrity model XC3S500E_PQG208 (Spartan-3E)
part A pins: 160 IO_L01P_0 (io), 161 IO_L01N_0 (io), 162 IO_L02P_0 (io), 163 IO_L02N_0/VREF_0 (io), 164 IO_L03P_0 (io), 165 IO_L03N_0 (io), 167 IO_L04P_0 (io), 168 IO_L04N_0/VREF_0 (io), 171 IO_L05P_0 (io), 172 IO_L05N_0 (io), 177 IO_L07P_0/GCLK4 (io), 178 IO_L07N_0/GCLK5 (io), 179 IO/VREF_0 (io), 180 IO_L08P_0/GCLK6 (io), 181 IO_L08N_0/GCLK7 (io), 185 IO_L10P_0/GCLK10 (io), 186 IO_L10N_0/GCLK11 (io), 187 IO (io), 189 IO_L11P_0 (io), 190 IO_L11N_0 (io), 192 IO_L12P_0 (io), 193 IO_L12N_0/VREF_0 (io), 196 IO_L13P_0 (io), 197 IO_L13N_0 (io), 199 IO_L14P_0 (io), 200 IO_L14N_0/VREF_0 (io), 202 IO_L15P_0 (io), 203 IO_L15N_0 (io), 205 IO_L16P_0 (io), 206 IO_L16N_0/HSWAP (io)
part B pins: 106 IO_L01P_1/A16 (io), 107 IO_L01N_1/A15 (io), 108 IO_L02P_1/A14 (io), 109 IO_L02N_1/A13 (io), 112 IO_L03P_1 (io), 113 IO_L03N_1/VREF_1 (io), 115 IO_L04P_1 (io), 116 IO_L04N_1 (io), 119 IO_L05P_1/A12 (io), 120 IO_L05N_1/A11 (io), 122 IO_L06P_1 (io), 123 IO_L06N_1/VREF_1 (io), 126 IO_L07P_1/A10/RHCLK0 (io), 127 IO_L07N_1/A9/RHCLK1 (io), 128 IO_L08P_1/A8/RHCLK2 (io), 129 IO_L08N_1/A7/RHCLK3 (io), 132 IO_L09P_1/A6/RHCLK4 (io), 133 IO_L09N_1/A5/RHCLK5 (io), 134 IO_L10P_1/A4/RHCLK6 (io), 135 IO_L10N_1/A3/RHCLK7 (io), 137 IO_L11P_1/A2 (io), 138 IO_L11N_1/A1 (io), 139 IO_L12P_1 (io), 140 IO_L12N_1/A0 (io), 144 IO_L13P_1 (io), 145 IO_L13N_1 (io), 146 IO_L14P_1 (io), 147 IO_L14N_1 (io), 150 IO_L15P_1/HDC (io), 151 IO_L15N_1/LDC0 (io), 152 IO_L16P_1/LDC1 (io), 153 IO_L16N_1/LDC2 (io)
part C pins: 55 IO_L01P_2/CSO_B (io), 56 IO_L01N_2/INIT_B (io), 60 IO_L03P_2/DOUT/BUSY (io), 61 IO_L03N_2/MOSI/CSI_B (io), 62 IO_L04P_2 (io), 63 IO_L04N_2 (io), 64 IO_L05P_2 (io), 65 IO_L05N_2 (io), 68 IO_L06P_2 (io), 69 IO_L06N_2 (io), 74 IO_L08P_2/D7/GCLK12 (io), 75 IO_L08N_2/D6/GCLK13 (io), 76 IO/D5 (io), 77 IO_L09P_2/D4/GCLK14 (io), 78 IO_L09N_2/D3/GCLK15 (io), 82 IO_L11P_2/D2/GCLK2 (io), 83 IO_L11N_2/D1/GCLK3 (io), 84 IO/M1 (io), 86 IO_L12P_2/M0 (io), 87 IO_L12N_2/DIN/D0 (io), 89 IO_L13P_2 (io), 90 IO_L13N_2 (io), 93 IO_L14P_2/A23 (io), 94 IO_L14N_2/A22 (io), 96 IO_L15P_2/A21 (io), 97 IO_L15N_2/A20 (io), 98 IO/VREF_2 (io), 99 IO_L16P_2/VS2/A19 (io), 100 IO_L16N_2/VS1/A18 (io), 102 IO_L17P_2/VS0/A17 (io), 103 IO_L17N_2/CCLK (io)
part D pins: 2 IO_L01P_3 (io), 3 IO_L01N_3 (io), 4 IO_L02P_3 (io), 5 IO_L02N_3/VREF_3 (io), 8 IO_L03P_3 (io), 9 IO_L03N_3 (io), 11 IO_L04P_3 (io), 12 IO_L04N_3 (io), 15 IO_L05P_3 (io), 16 IO_L05N_3 (io), 18 IO_L06P_3 (io), 19 IO_L06N_3 (io), 22 IO_L07P_3/LHCLK0 (io), 23 IO_L07N_3/LHCLK1 (io), 24 IO_L08P_3/LHCLK2 (io), 25 IO_L08N_3/LHCLK3 (io), 28 IO_L09P_3/LHCLK4 (io), 29 IO_L09N_3/LHCLK5 (io), 30 IO_L10P_3/LHCLK6 (io), 31 IO_L10N_3/LHCLK7 (io), 33 IO_L11P_3 (io), 34 IO_L11N_3 (io), 35 IO_L12P_3 (io), 36 IO_L12N_3 (io), 39 IO_L13P_3 (io), 40 IO_L13N_3 (io), 41 IO_L14P_3 (io), 42 IO_L14N_3 (io), 45 IO/VREF_3 (io), 47 IO_L15P_3 (io), 48 IO_L15N_3 (io), 49 IO_L16P_3 (io), 50 IO_L16N_3 (io)
part E pins: 6 IP (in), 14 IP (in), 20 IP/VREF_3 (in), 26 IP (in), 32 IP (in), 43 IP (in), 51 IP (in), 54 IP (in), 57 IP_L02P_2 (in), 58 IP_L02N_2 (in), 71 IP_L07P_2 (in), 72 IP_L07N_2/VREF_2 (in), 80 IP_L10P_2/RDWR_B/GCLK0 (in), 81 IP_L10N_2/M2/GCLK1 (in), 91 IP (in), 101 IP (in), 110 IP (in), 118 IP (in), 124 IP (in), 130 IP (in), 136 IP/VREF_1 (in), 142 IP (in), 148 IP (in), 154 IP (in), 159 IP (in), 169 IP (in), 174 IP_L06P_0 (in), 175 IP_L06N_0 (in), 183 IP_L09P_0/GCLK8 (in), 184 IP_L09N_0/GCLK9 (in), 194 IP (in), 204 IP (in)
part F pins: 1 PROG_B (in), 104 DONE (io), 155 TMS (in), 157 TDO (out), 158 TCK (in), 207 TDI (in)
part G pins: 7 VCCAUX (power), 13 VCCINT (power), 21 VCCO_3 (power), 38 VCCO_3 (power), 44 VCCAUX (power), 46 VCCO_3 (power), 59 VCCO_2 (power), 66 VCCAUX (power), 67 VCCINT (power), 73 VCCO_2 (power), 88 VCCO_2 (power), 92 VCCAUX (power), 111 VCCAUX (power), 114 VCCO_1 (power), 117 VCCINT (power), 125 VCCO_1 (power), 143 VCCO_1 (power), 149 VCCAUX (power), 166 VCCAUX (power), 170 VCCINT (power), 176 VCCO_0 (power), 191 VCCO_0 (power), 195 VCCAUX (power), 201 VCCO_0 (power)
part H pins: 10 GND (power), 17 GND (power), 27 GND (power), 37 GND (power), 52 GND (power), 53 GND (power), 70 GND (power), 79 GND (power), 85 GND (power), 95 GND (power), 105 GND (power), 121 GND (power), 131 GND (power), 141 GND (power), 156 GND (power), 173 GND (power), 182 GND (power), 188 GND (power), 198 GND (power), 208 GND (power)
part A text: BANK 0
part B text: BANK 1
part C text: BANK 2
part D text: BANK 3

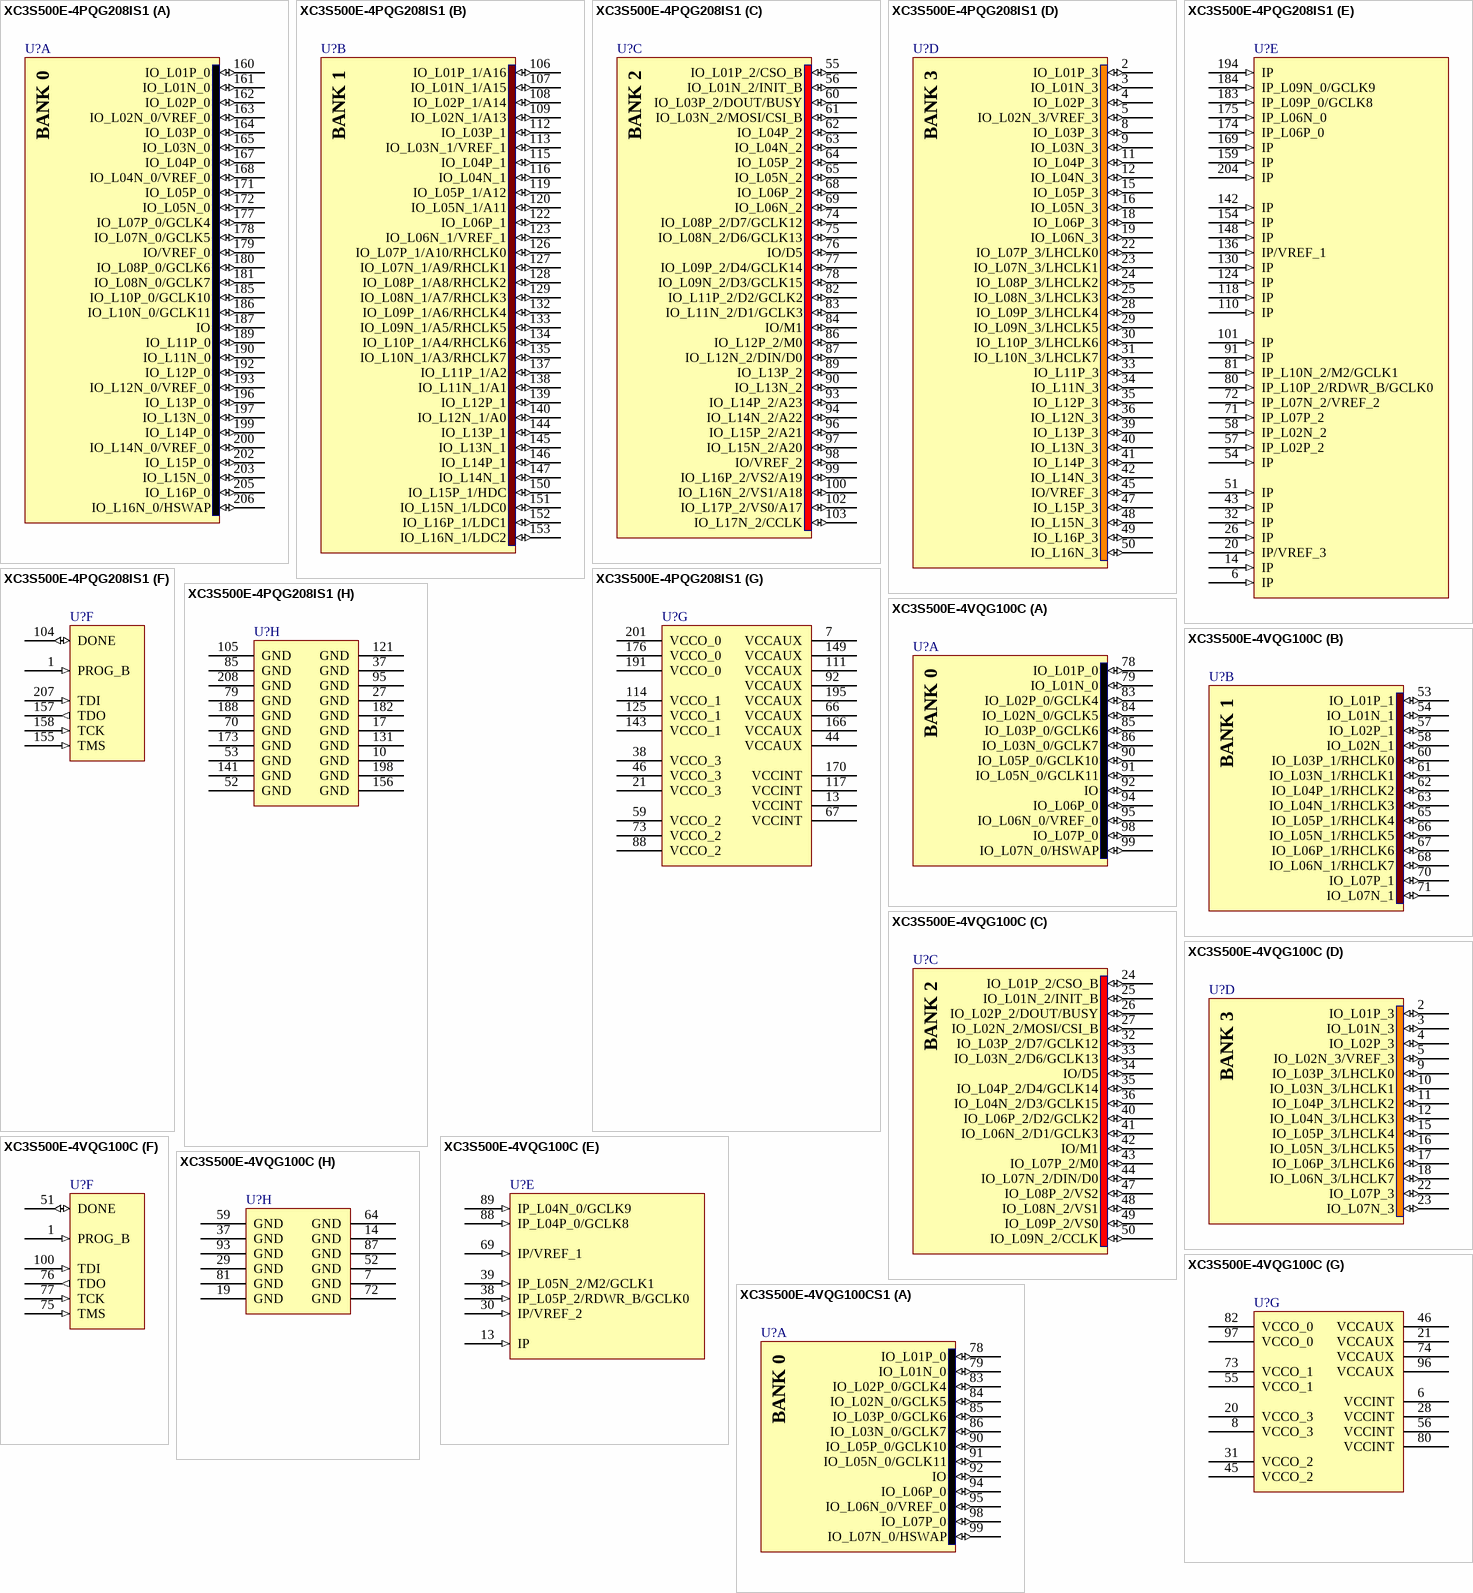
[diagram p79: symbols XC3S500E-4PQG208IS1 to XC3S500E-4VQG100CS1]